# Altium schematic symbol library maxim.SCHLIB: 502 symbols (part 1 of 4)
Pins are listed as number, name and electrical type; pins without a type are passive.

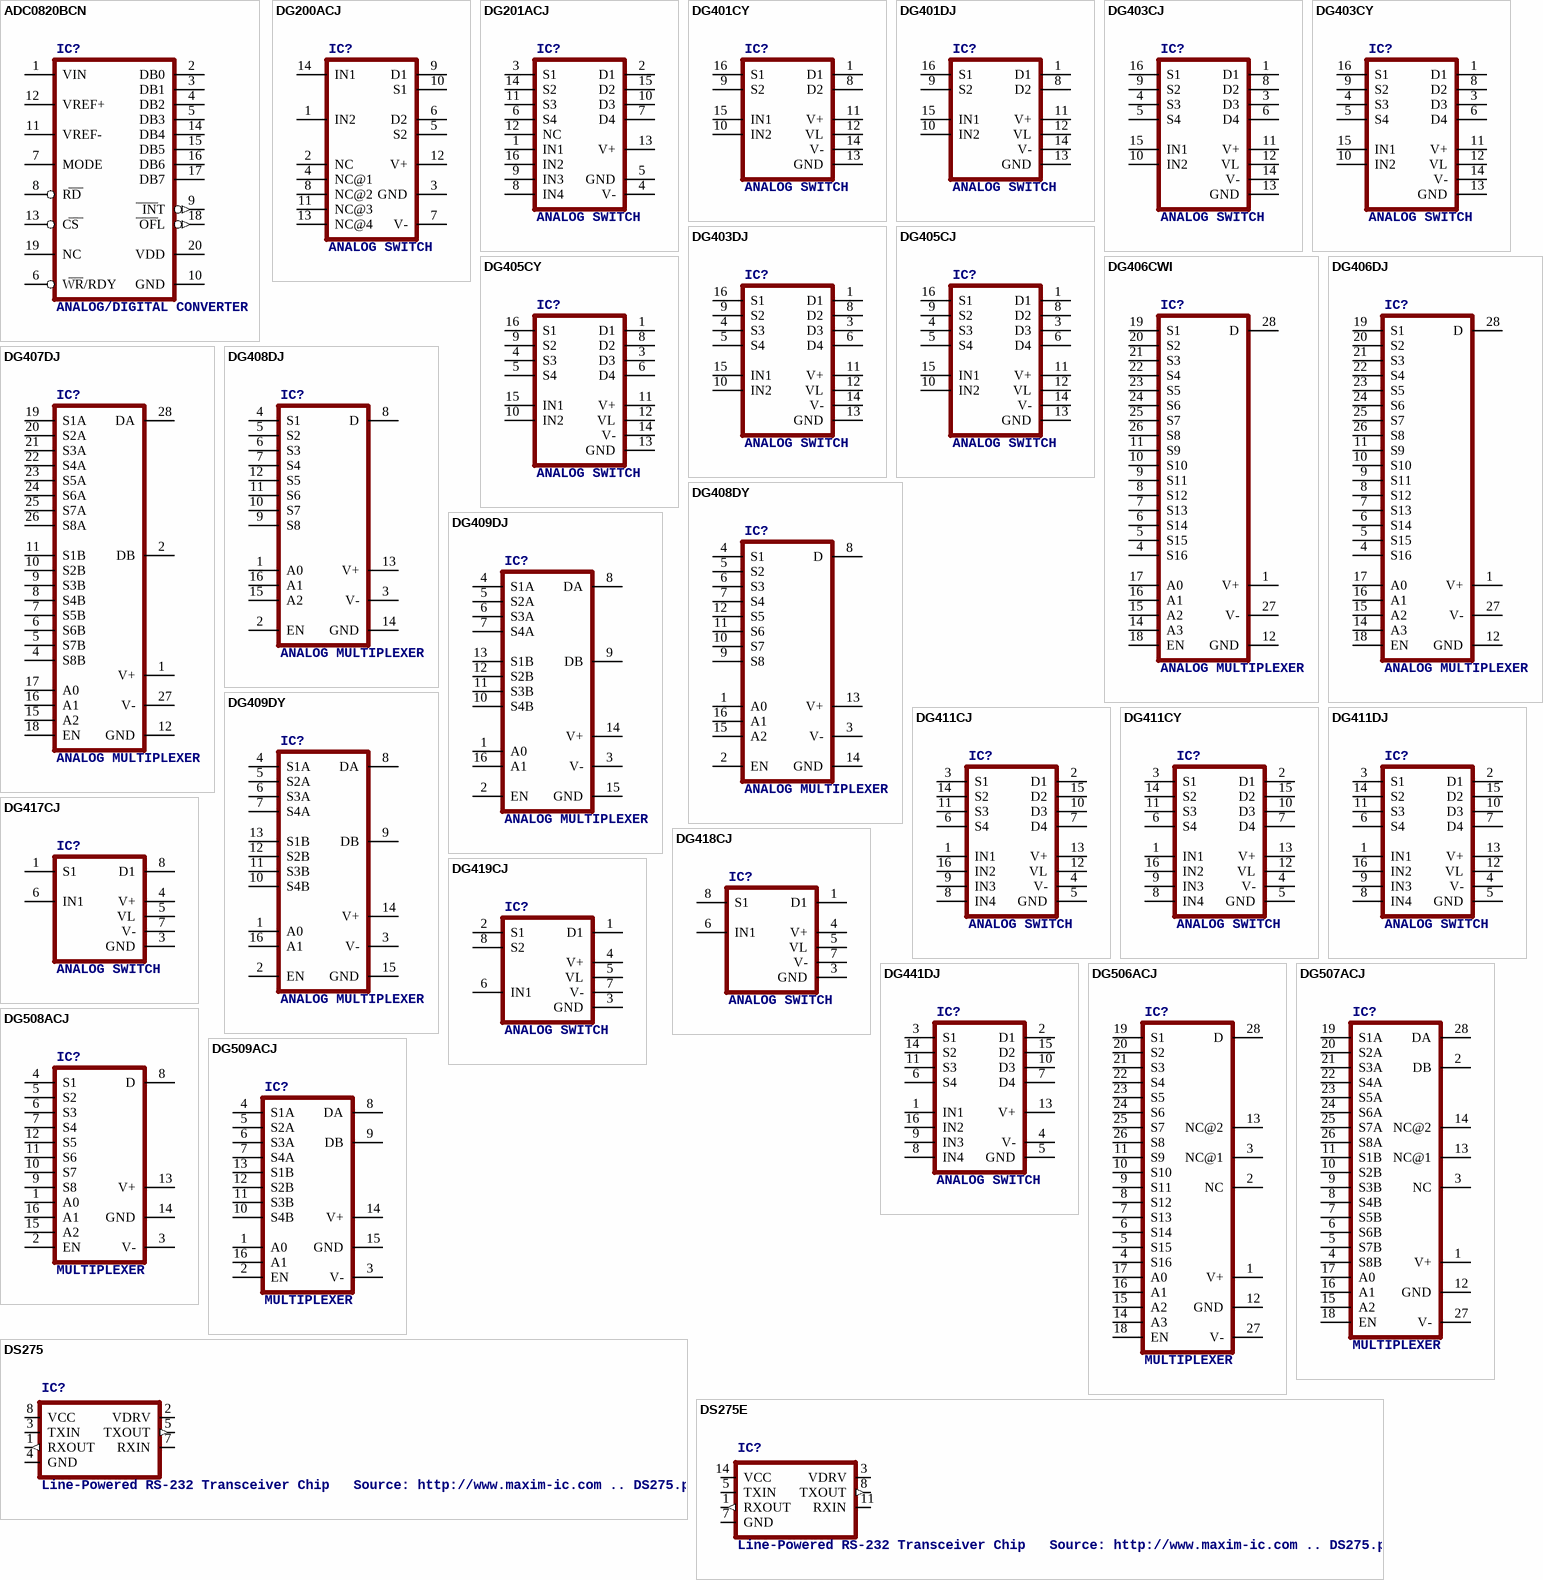
[diagram p0: symbols ADC0820BCN to DS275E]

## ADC0820BCN
designator IC?, comment ANALOG/DIGITAL CONVERTER
MPN: ADC0820CCN/NOPB.; MF: NATIONAL SEMICONDUCTOR; OC_FARNELL: 1189415; OC_NEWARK: unknown
footprint DIL20
pins: 1 VIN, 2 DB0 (hiz), 3 DB1 (hiz), 4 DB2 (hiz), 5 DB3 (hiz), 6 WR/RDY, 7 MODE, 8 RD, 9 INT (out), 10 GND (power), 11 VREF-, 12 VREF+, 13 CS, 14 DB4 (hiz), 15 DB5 (hiz), 16 DB6 (hiz), 17 DB7 (hiz), 18 OFL (out), 19 NC, 20 VDD (power)

## DG200ACJ
designator IC?, comment ANALOG SWITCH
OC_FARNELL: unknown; OC_NEWARK: 77C6395
footprint DIL14
pins: 1 IN2, 2 NC, 3 GND (power), 4 NC@1, 5 S2, 6 D2, 7 V- (power), 8 NC@2, 9 D1, 10 S1, 11 NC@3, 12 V+ (power), 13 NC@4, 14 IN1

## DG201ACJ
designator IC?, comment ANALOG SWITCH
MPN: DG201ACJ; OC_FARNELL: unknown; OC_NEWARK: 06F3941
footprint DIL16
pins: 1 IN1, 2 D1, 3 S1, 4 V- (power), 5 GND (power), 6 S4, 7 D4, 8 IN4, 9 IN3, 10 D3, 11 S3, 12 NC, 13 V+ (power), 14 S2, 15 D2, 16 IN2

## DG401CY
designator IC?, comment ANALOG SWITCH
OC_FARNELL: unknown; OC_NEWARK: unknown
footprint SO16
pins: 1 D1, 8 D2, 9 S2, 10 IN2, 11 V+ (power), 12 VL (power), 13 GND (power), 14 V- (power), 15 IN1, 16 S1

## DG401DJ
designator IC?, comment ANALOG SWITCH
MPN: DG401DJ; OC_FARNELL: 1421843; OC_NEWARK: 06F3955
footprint DIL16
pins: 1 D1, 8 D2, 9 S2, 10 IN2, 11 V+ (power), 12 VL (power), 13 GND (power), 14 V- (power), 15 IN1, 16 S1

## DG403CJ
designator IC?, comment ANALOG SWITCH
MPN: DG403CJ+; OC_FARNELL: unknown; OC_NEWARK: 89K2353
footprint DIL16
pins: 1 D1, 3 D3, 4 S3, 5 S4, 6 D4, 8 D2, 9 S2, 10 IN2, 11 V+ (power), 12 VL (power), 13 GND (power), 14 V- (power), 15 IN1, 16 S1

## DG403CY
designator IC?, comment ANALOG SWITCH
MPN: DG403CY; MF: MAXIM; OC_FARNELL: 1379790; OC_NEWARK: 77C6446
footprint SO16
pins: 1 D1, 3 D3, 4 S3, 5 S4, 6 D4, 8 D2, 9 S2, 10 IN2, 11 V+ (power), 12 VL (power), 13 GND (power), 14 V- (power), 15 IN1, 16 S1

## DG403DJ
designator IC?, comment ANALOG SWITCH
MPN: DG403DJ; OC_FARNELL: 1077116; OC_NEWARK: 06F3957
footprint DIL16
pins: 1 D1, 3 D3, 4 S3, 5 S4, 6 D4, 8 D2, 9 S2, 10 IN2, 11 V+ (power), 12 VL (power), 13 GND (power), 14 V- (power), 15 IN1, 16 S1

## DG405CJ
designator IC?, comment ANALOG SWITCH
MPN: DG405CJ+; OC_FARNELL: unknown; OC_NEWARK: 50M0853
footprint DIL16
pins: 1 D1, 3 D3, 4 S3, 5 S4, 6 D4, 8 D2, 9 S2, 10 IN2, 11 V+ (power), 12 VL (power), 13 GND (power), 14 V- (power), 15 IN1, 16 S1

## DG405CY
designator IC?, comment ANALOG SWITCH
MPN: DG405CY+; OC_FARNELL: unknown; OC_NEWARK: 18M7221
footprint SO16
pins: 1 D1, 3 D3, 4 S3, 5 S4, 6 D4, 8 D2, 9 S2, 10 IN2, 11 V+ (power), 12 VL (power), 13 GND (power), 14 V- (power), 15 IN1, 16 S1

## DG406CWI
designator IC?, comment ANALOG MULTIPLEXER
MPN: DG406CWI; MF: MAXIM; OC_FARNELL: unknown; OC_NEWARK: 77C6458
footprint SO28L
pins: 1 V+ (power), 4 S16, 5 S15, 6 S14, 7 S13, 8 S12, 9 S11, 10 S10, 11 S9, 12 GND (power), 14 A3, 15 A2, 16 A1, 17 A0, 18 EN, 19 S1, 20 S2, 21 S3, 22 S4, 23 S5, 24 S6, 25 S7, 26 S8, 27 V- (power), 28 D

## DG406DJ
designator IC?, comment ANALOG MULTIPLEXER
MPN: DG406DJ; MF: VISHAY/SILICONIX; OC_FARNELL: 1077078; OC_NEWARK: 13C1162
footprint DIL28-6
pins: 1 V+ (power), 4 S16, 5 S15, 6 S14, 7 S13, 8 S12, 9 S11, 10 S10, 11 S9, 12 GND (power), 14 A3, 15 A2, 16 A1, 17 A0, 18 EN, 19 S1, 20 S2, 21 S3, 22 S4, 23 S5, 24 S6, 25 S7, 26 S8, 27 V- (power), 28 D

## DG407DJ
designator IC?, comment ANALOG MULTIPLEXER
MPN: DG407DJ; MF: VISHAY/SILICONIX; OC_FARNELL: 1077079; OC_NEWARK: 13C1165
footprint DIL28-6
pins: 1 V+ (power), 2 DB, 4 S8B, 5 S7B, 6 S6B, 7 S5B, 8 S4B, 9 S3B, 10 S2B, 11 S1B, 12 GND (power), 15 A2, 16 A1, 17 A0, 18 EN, 19 S1A, 20 S2A, 21 S3A, 22 S4A, 23 S5A, 24 S6A, 25 S7A, 26 S8A, 27 V- (power), 28 DA

## DG408DJ
designator IC?, comment ANALOG MULTIPLEXER
MPN: DG408DJ; OC_FARNELL: 1077111; OC_NEWARK: 77C6478
footprint DIL16
pins: 1 A0, 2 EN, 3 V- (power), 4 S1, 5 S2, 6 S3, 7 S4, 8 D, 9 S8, 10 S7, 11 S6, 12 S5, 13 V+ (power), 14 GND (power), 15 A2, 16 A1

## DG408DY
designator IC?, comment ANALOG MULTIPLEXER
MPN: DG408DY+T; OC_FARNELL: 1077070; OC_NEWARK: 67K3719
footprint SO16
pins: 1 A0, 2 EN, 3 V- (power), 4 S1, 5 S2, 6 S3, 7 S4, 8 D, 9 S8, 10 S7, 11 S6, 12 S5, 13 V+ (power), 14 GND (power), 15 A2, 16 A1

## DG409DJ
designator IC?, comment ANALOG MULTIPLEXER
MPN: DG409DJ; MF: INTERSIL; OC_FARNELL: 9664084; OC_NEWARK: 06F3963
footprint DIL16
pins: 1 A0, 2 EN, 3 V- (power), 4 S1A, 5 S2A, 6 S3A, 7 S4A, 8 DA, 9 DB, 10 S4B, 11 S3B, 12 S2B, 13 S1B, 14 V+ (power), 15 GND (power), 16 A1

## DG409DY
designator IC?, comment ANALOG MULTIPLEXER
MPN: DG409DY; MF: MAXIM; OC_FARNELL: 9663835; OC_NEWARK: 90C1278
footprint SO16
pins: 1 A0, 2 EN, 3 V- (power), 4 S1A, 5 S2A, 6 S3A, 7 S4A, 8 DA, 9 DB, 10 S4B, 11 S3B, 12 S2B, 13 S1B, 14 V+ (power), 15 GND (power), 16 A1

## DG411CJ
designator IC?, comment ANALOG SWITCH
OC_FARNELL: unknown; OC_NEWARK: unknown
footprint DIL16
pins: 1 IN1, 2 D1, 3 S1, 4 V- (power), 5 GND (power), 6 S4, 7 D4, 8 IN4, 9 IN3, 10 D3, 11 S3, 12 VL (power), 13 V+ (power), 14 S2, 15 D2, 16 IN2

## DG411CY
designator IC?, comment ANALOG SWITCH
MPN: DG411CY; MF: MAXIM; OC_FARNELL: unknown; OC_NEWARK: 90C1285
footprint SO16
pins: 1 IN1, 2 D1, 3 S1, 4 V- (power), 5 GND (power), 6 S4, 7 D4, 8 IN4, 9 IN3, 10 D3, 11 S3, 12 VL (power), 13 V+ (power), 14 S2, 15 D2, 16 IN2

## DG411DJ
designator IC?, comment ANALOG SWITCH
MPN: DG411DJ; MF: INTERSIL; OC_FARNELL: 2264651; OC_NEWARK: 06F3965
footprint DIL16
pins: 1 IN1, 2 D1, 3 S1, 4 V- (power), 5 GND (power), 6 S4, 7 D4, 8 IN4, 9 IN3, 10 D3, 11 S3, 12 VL (power), 13 V+ (power), 14 S2, 15 D2, 16 IN2

## DG417CJ
designator IC?, comment ANALOG SWITCH
OC_FARNELL: unknown; OC_NEWARK: unknown
footprint DIL08
pins: 1 S1, 3 GND (power), 4 V+ (power), 5 VL (power), 6 IN1, 7 V- (power), 8 D1

## DG418CJ
designator IC?, comment ANALOG SWITCH
MPN: DG418CJ+; OC_FARNELL: unknown; OC_NEWARK: 42M5262
footprint DIL08
pins: 1 D1, 3 GND (power), 4 V+ (power), 5 VL (power), 6 IN1, 7 V- (power), 8 S1

## DG419CJ
designator IC?, comment ANALOG SWITCH
MPN: DG419CJ; MF: MAXIM; OC_FARNELL: unknown; OC_NEWARK: 77C6520
footprint DIL08
pins: 1 D1, 2 S1, 3 GND (power), 4 V+ (power), 5 VL (power), 6 IN1, 7 V- (power), 8 S2

## DG441DJ
designator IC?, comment ANALOG SWITCH
MPN: DG441DJZ; MF: INTERSIL; OC_FARNELL: 1561941; OC_NEWARK: 61J5532
footprint DIL16
pins: 1 IN1, 2 D1, 3 S1, 4 V- (power), 5 GND (power), 6 S4, 7 D4, 8 IN4, 9 IN3, 10 D3, 11 S3, 13 V+ (power), 14 S2, 15 D2, 16 IN2

## DG506ACJ
designator IC?, comment MULTIPLEXER
MPN: DG506ACJ; MF: MAXIM; OC_FARNELL: unknown; OC_NEWARK: 90C1316
footprint DIL28-6
pins: 1 V+ (power), 2 NC, 3 NC@1, 4 S16, 5 S15, 6 S14, 7 S13, 8 S12, 9 S11, 10 S10, 11 S9, 12 GND (power), 13 NC@2, 14 A3, 15 A2, 16 A1, 17 A0, 18 EN, 19 S1, 20 S2, 21 S3, 22 S4, 23 S5, 24 S6, 25 S7, 26 S8, 27 V- (power), 28 D

## DG507ACJ
designator IC?, comment MULTIPLEXER
MPN: DG507ACJ+; OC_FARNELL: 1077079; OC_NEWARK: 18M9071
footprint DIL28-6
pins: 1 V+ (power), 2 DB, 3 NC, 4 S8B, 5 S7B, 6 S6B, 7 S5B, 8 S4B, 9 S3B, 10 S2B, 11 S1B, 12 GND (power), 13 NC@1, 14 NC@2, 15 A2, 16 A1, 17 A0, 18 EN, 19 S1A, 20 S2A, 21 S3A, 22 S4A, 23 S5A, 24 S6A, 25 S7A, 26 S8A, 27 V- (power), 28 DA

## DG508ACJ
designator IC?, comment MULTIPLEXER
MPN: DG508ACJ; MF: MAXIM; OC_FARNELL: 9663673; OC_NEWARK: 90C1325
footprint DIL16
pins: 1 A0, 2 EN, 3 V- (power), 4 S1, 5 S2, 6 S3, 7 S4, 8 D, 9 S8, 10 S7, 11 S6, 12 S5, 13 V+ (power), 14 GND (power), 15 A2, 16 A1

## DG509ACJ
designator IC?, comment MULTIPLEXER
MPN: DG509ACJ; MF: MAXIM; OC_FARNELL: 9664084; OC_NEWARK: 90C1331
footprint DIL16
pins: 1 A0, 2 EN, 3 V- (power), 4 S1A, 5 S2A, 6 S3A, 7 S4A, 8 DA, 9 DB, 10 S4B, 11 S3B, 12 S2B, 13 S1B, 14 V+ (power), 15 GND (power), 16 A1

## DS275
designator IC?, comment Line-Powered RS-232 Transceiver Chip   Source: http://www.maxim-ic.com .. DS275.pdf
MPN: DS275+; OC_FARNELL: unknown; OC_NEWARK: 88K4212
footprint DIL08
pins: 1 RXOUT (out), 2 VDRV, 3 TXIN, 4 GND (power), 5 TXOUT (out), 7 RXIN, 8 VCC (power)

## DS275E
designator IC?, comment Line-Powered RS-232 Transceiver Chip   Source: http://www.maxim-ic.com .. DS275.pdf
OC_FARNELL: unknown; OC_NEWARK: unknown
footprint TSSOP14
pins: 1 RXOUT (out), 3 VDRV, 5 TXIN, 7 GND (power), 8 TXOUT (out), 11 RXIN, 14 VCC (power)

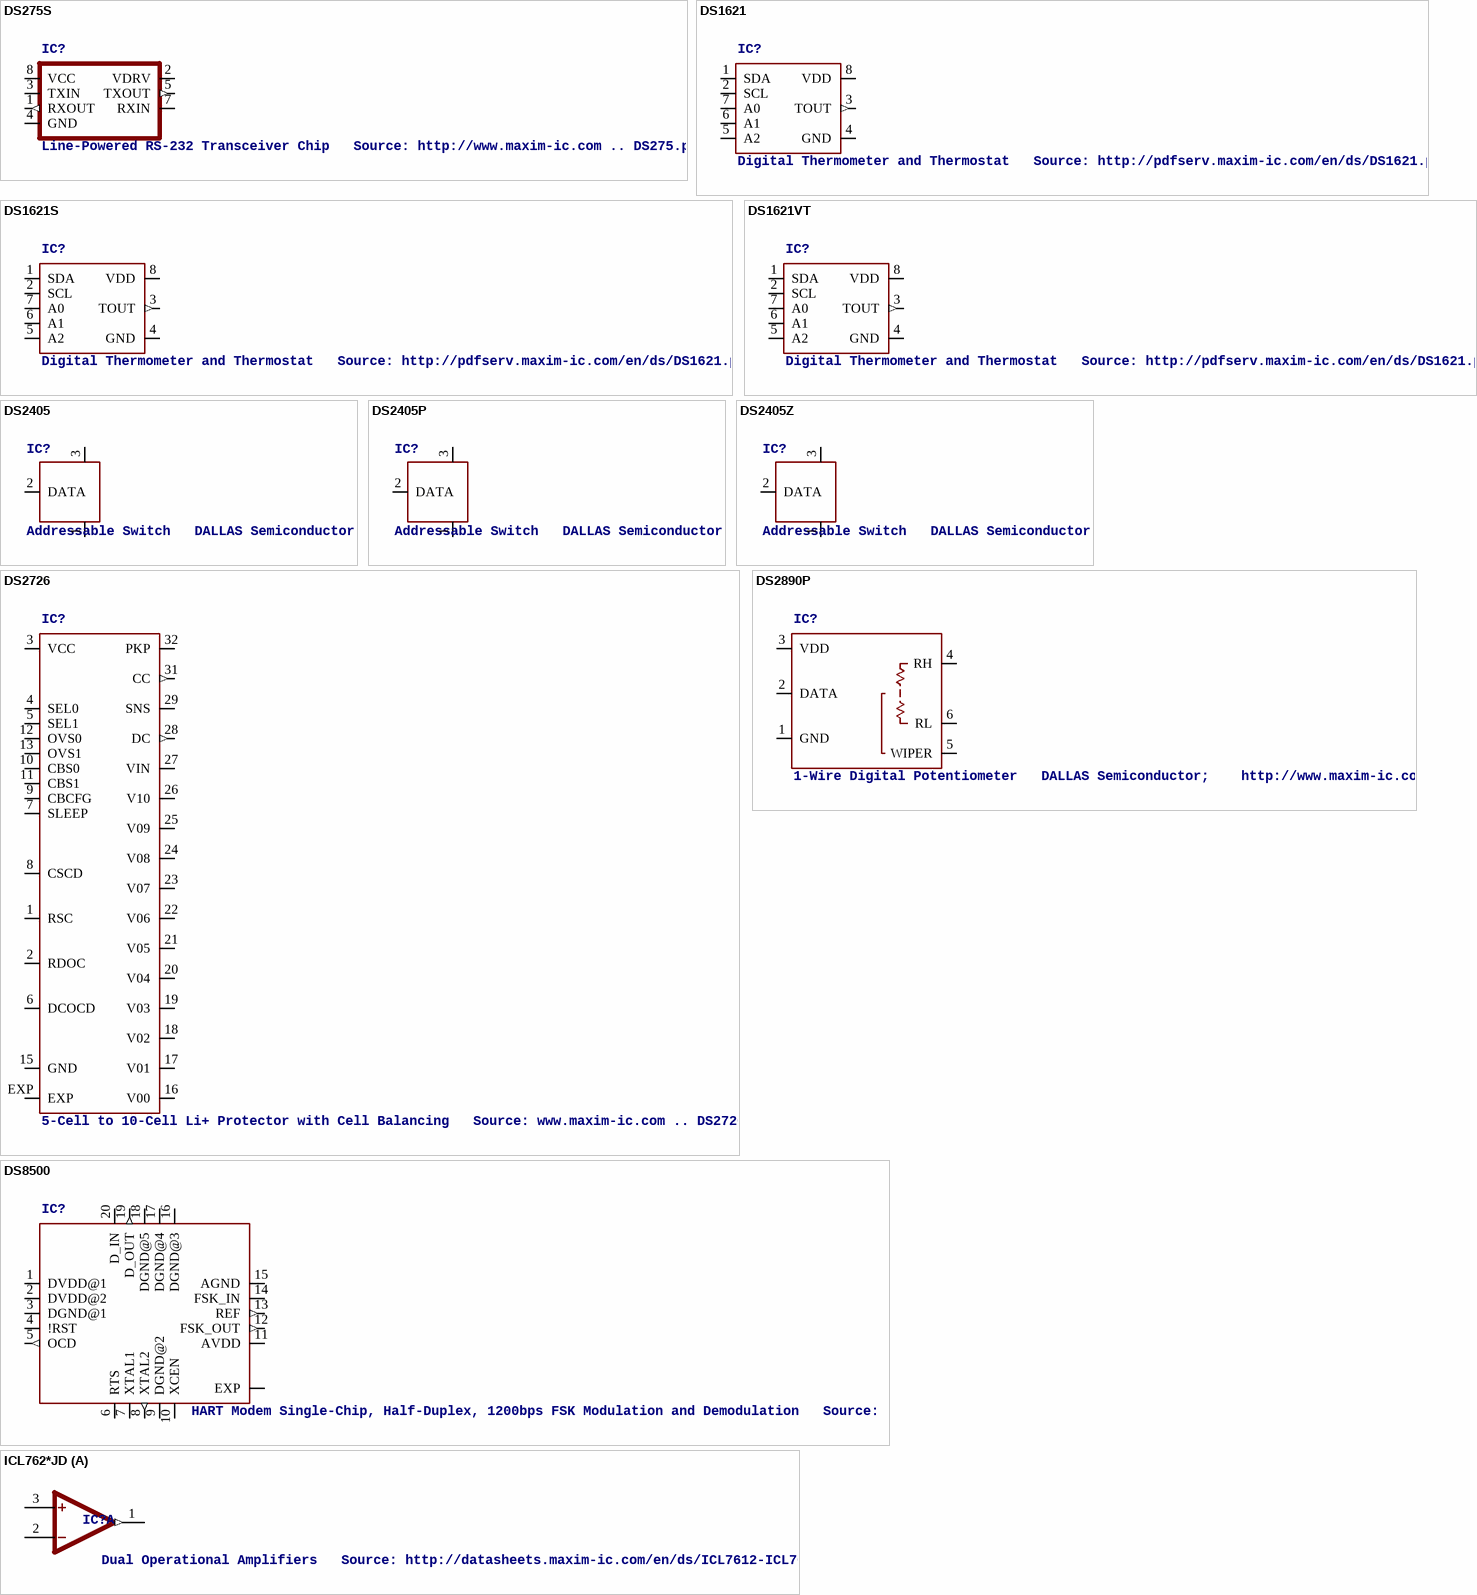
[diagram p1: symbols DS275S to ICL762*JD]

## DS275S
designator IC?, comment Line-Powered RS-232 Transceiver Chip   Source: http://www.maxim-ic.com .. DS275.pdf
MPN: DS275S+; MF: DALLAS SEMICONDUCTOR; OC_FARNELL: unknown; OC_NEWARK: 60K9389
footprint SO08
pins: 1 RXOUT (out), 2 VDRV, 3 TXIN, 4 GND (power), 5 TXOUT (out), 7 RXIN, 8 VCC (power)

## DS1621
designator IC?, comment Digital Thermometer and Thermostat   Source: http://pdfserv.maxim-ic.com/en/ds/DS1621.pdf
MPN: DS1621; OC_FARNELL: 1188024; OC_NEWARK: 66F3769
footprint DIL08
pins: 1 SDA, 2 SCL, 3 TOUT (out), 4 GND (power), 5 A2, 6 A1, 7 A0, 8 VDD (power)

## DS1621S
designator IC?, comment Digital Thermometer and Thermostat   Source: http://pdfserv.maxim-ic.com/en/ds/DS1621.pdf
MPN: DS1621S+; MF: DALLAS SEMICONDUCTOR; OC_FARNELL: 9725261; OC_NEWARK: 23K3501
footprint SO08
pins: 1 SDA, 2 SCL, 3 TOUT (out), 4 GND (power), 5 A2, 6 A1, 7 A0, 8 VDD (power)

## DS1621VT
designator IC?, comment Digital Thermometer and Thermostat   Source: http://pdfserv.maxim-ic.com/en/ds/DS1621.pdf
MPN: DS1621V+T&R; OC_FARNELL: unknown; OC_NEWARK: 65K5328
footprint SO08-208
pins: 1 SDA, 2 SCL, 3 TOUT (out), 4 GND (power), 5 A2, 6 A1, 7 A0, 8 VDD (power)

## DS2405
designator IC?, comment Addressable Switch   DALLAS Semiconductor
MPN: DS2405; MF: DALLAS SEMICONDUCTOR; OC_FARNELL: 1188025; OC_NEWARK: 06F4645
footprint TO92-
pins: 1 GND, 2 DATA, 3 PIO

## DS2405P
designator IC?, comment Addressable Switch   DALLAS Semiconductor
OC_FARNELL: unknown; OC_NEWARK: unknown
footprint TSOC6
pins: 1 GND, 2 DATA, 3 PIO

## DS2405Z
designator IC?, comment Addressable Switch   DALLAS Semiconductor
OC_FARNELL: 1290862; OC_NEWARK: unknown
footprint SOT223
pins: 1 GND, 2 DATA, 3 PIO

## DS2726
designator IC?, comment 5-Cell to 10-Cell Li+ Protector with Cell Balancing   Source: www.maxim-ic.com .. DS2726.pdf
MPN: DS2726G+; OC_FARNELL: unknown; OC_NEWARK: 01N5678
footprint TQFN32
pins: 1 RSC, 2 RDOC, 3 VCC (power), 4 SEL0, 5 SEL1, 6 DCOCD, 7 SLEEP, 8 CSCD, 9 CBCFG, 10 CBS0, 11 CBS1, 12 OVS0, 13 OVS1, 15 GND (power), 16 V00, 17 V01, 18 V02, 19 V03, 20 V04, 21 V05, 22 V06, 23 V07, 24 V08, 25 V09, 26 V10, 27 VIN, 28 DC (out), 29 SNS, 31 CC (out), 32 PKP, EXP

## DS2890P
designator IC?, comment 1-Wire Digital Potentiometer   DALLAS Semiconductor;    http://www.maxim-ic.com/
OC_FARNELL: unknown; OC_NEWARK: unknown
footprint TSOC6
pins: 1 GND (power), 2 DATA, 3 VDD (power), 4 RH, 5 WIPER, 6 RL

## DS8500
designator IC?, comment HART Modem Single-Chip, Half-Duplex, 1200bps FSK Modulation and Demodulation   Source: http://datasheets.maxim-ic.com/en/ds/DS8500.pdf
MPN: DS8500-JND+; OC_FARNELL: unknown; OC_NEWARK: 19P9102
footprint TQFN20-5X5
pins: 1 DVDD@1 (power), 2 DVDD@2 (power), 3 DGND@1 (power), 4 !RST, 5 OCD (out), 6 RTS, 7 XTAL1, 8 XTAL2 (out), 9 DGND@2 (power), 10 XCEN, 11 AVDD, 12 FSK_OUT (out), 13 REF (out), 14 FSK_IN, 15 AGND, 16 DGND@3 (power), 17 DGND@4 (power), 18 DGND@5 (power), 19 D_OUT (out), 20 D_IN, EXP

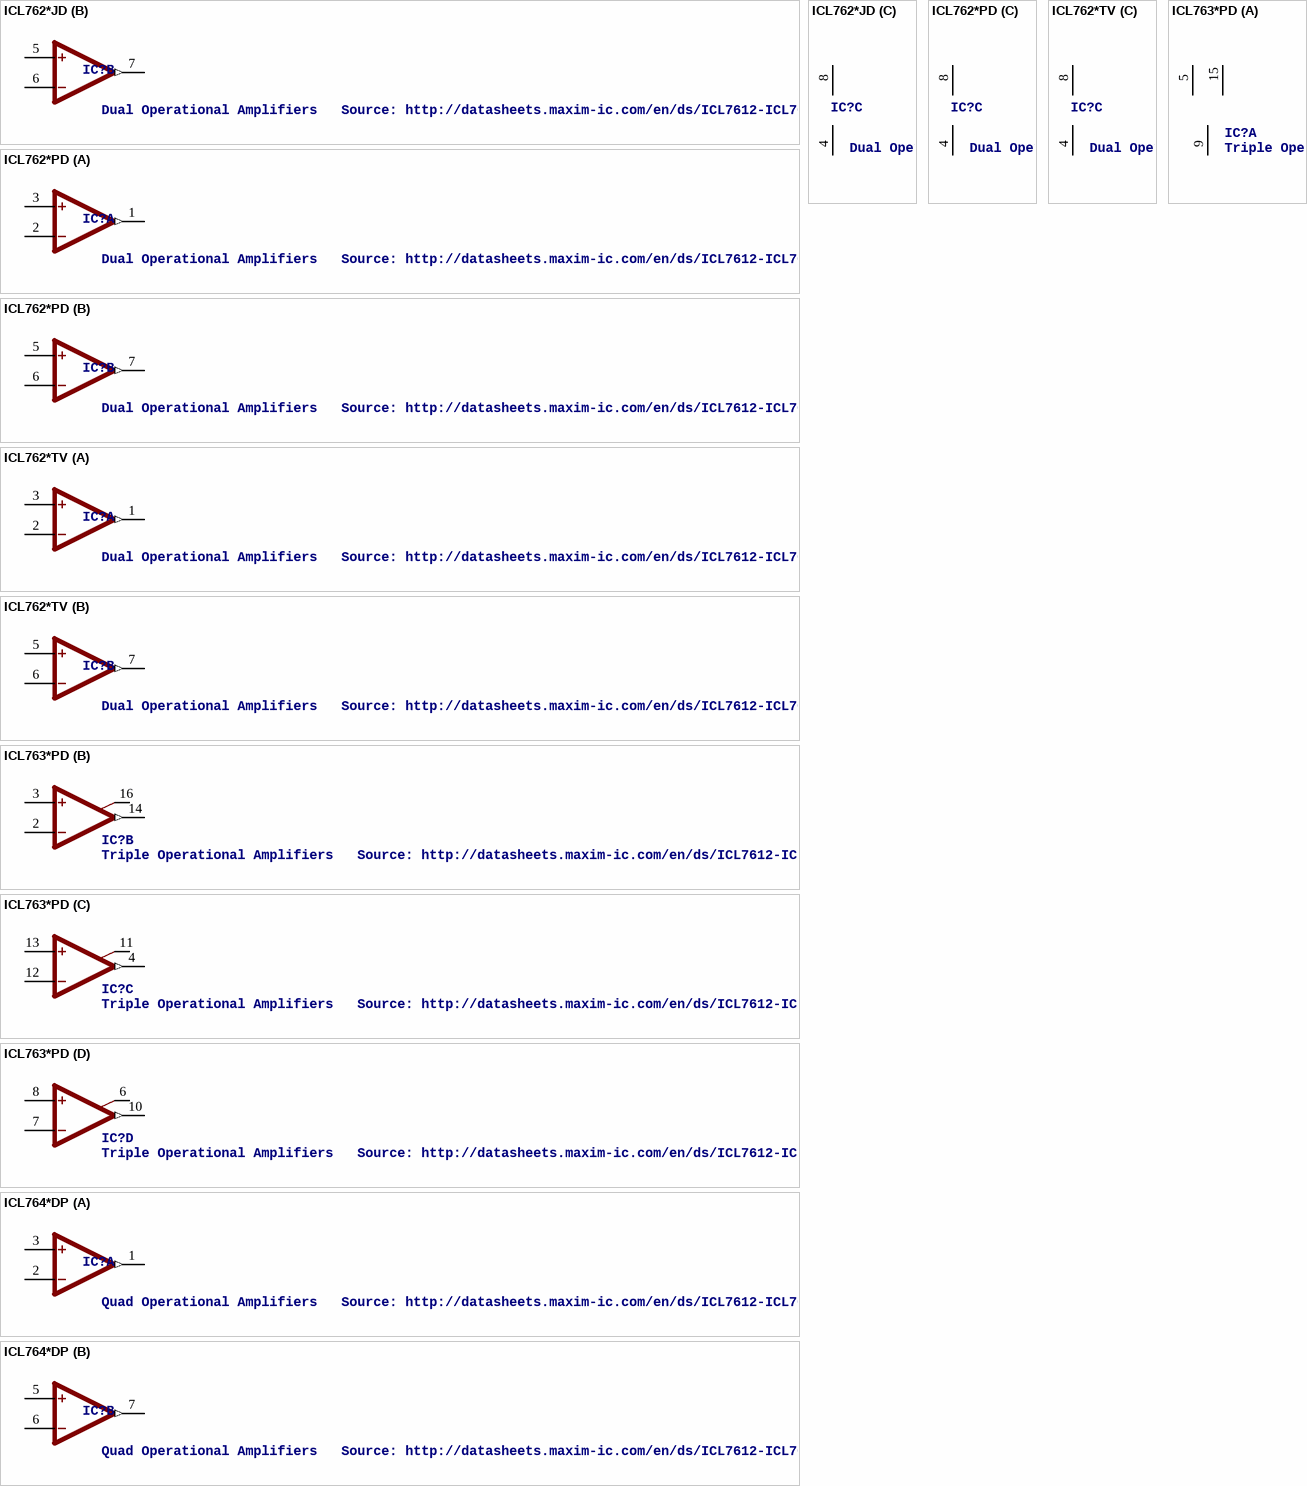
[diagram p2: symbols ICL762*JD to ICL764*DP]

## ICL762*JD
designator IC?, comment Dual Operational Amplifiers   Source: http://datasheets.maxim-ic.com/en/ds/ICL7612-ICL764X.pdf
OC_FARNELL: unknown; OC_NEWARK: unknown
footprint DIL08
part A pins: 1 OUT (out), 2 -IN, 3 +IN
part B pins: 5 +IN, 6 -IN, 7 OUT (out)
part C pins: 4 V- (power), 8 V+ (power)

## ICL762*PD
designator IC?, comment Dual Operational Amplifiers   Source: http://datasheets.maxim-ic.com/en/ds/ICL7612-ICL764X.pdf
OC_FARNELL: unknown; OC_NEWARK: unknown
footprint DIL08
part A pins: 1 OUT (out), 2 -IN, 3 +IN
part B pins: 5 +IN, 6 -IN, 7 OUT (out)
part C pins: 4 V- (power), 8 V+ (power)

## ICL762*TV
designator IC?, comment Dual Operational Amplifiers   Source: http://datasheets.maxim-ic.com/en/ds/ICL7612-ICL764X.pdf
OC_FARNELL: unknown; OC_NEWARK: unknown
footprint TO99
part A pins: 1 OUT (out), 2 -IN, 3 +IN
part B pins: 5 +IN, 6 -IN, 7 OUT (out)
part C pins: 4 V- (power), 8 V+ (power)

## ICL763*PD
designator IC?, comment Triple Operational Amplifiers   Source: http://datasheets.maxim-ic.com/en/ds/ICL7612-ICL764X.pdf
OC_FARNELL: unknown; OC_NEWARK: unknown
footprint DIL16
part A pins: 5 V+@1 (power), 9 V- (power), 15 V+@2 (power)
part B pins: 2 -IN, 3 +IN, 14 OUT (out), 16 IOSET
part C pins: 4 OUT (out), 11 IOSET, 12 -IN, 13 +IN
part D pins: 6 IOSET, 7 -IN, 8 +IN, 10 OUT (out)

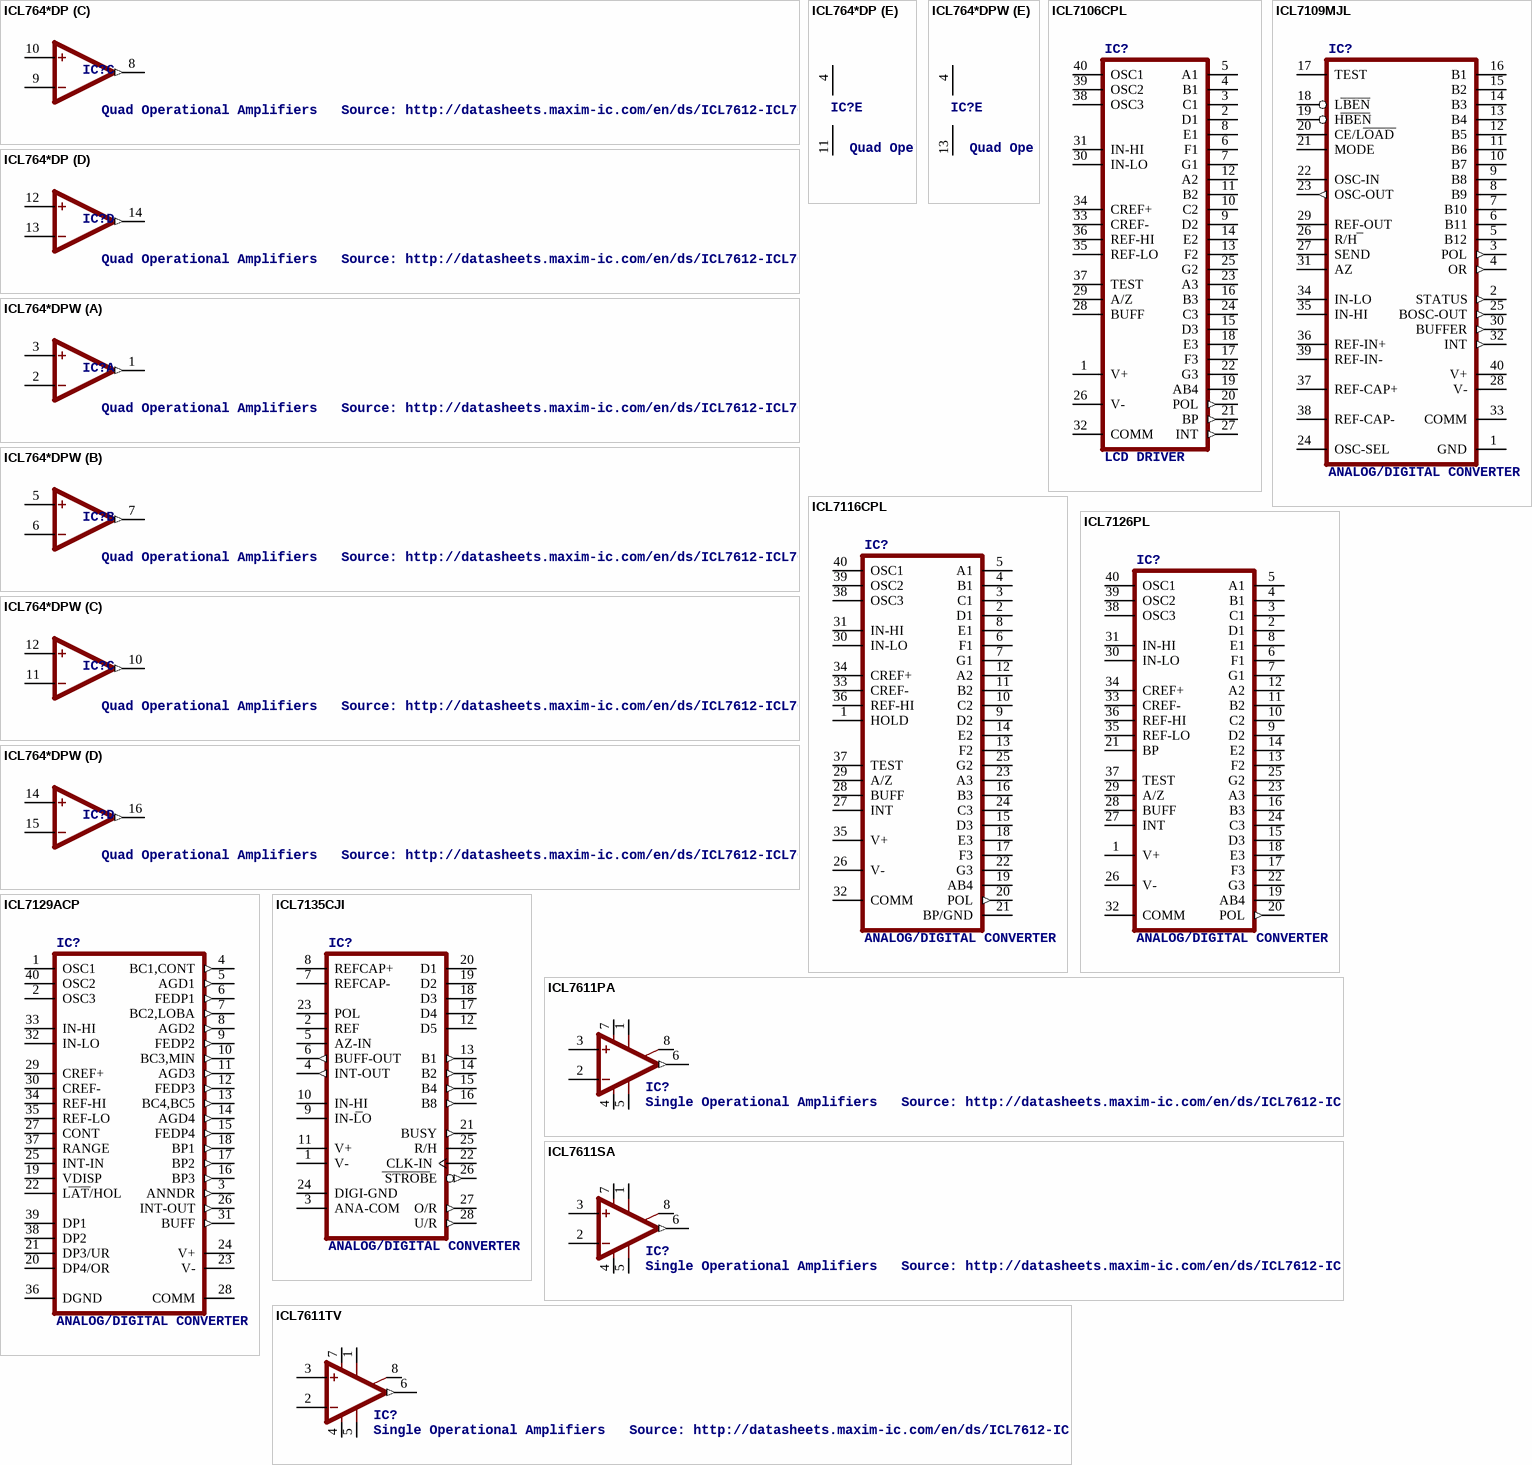
[diagram p3: symbols ICL764*DP to ICL7611TV]

## ICL764*DP
designator IC?, comment Quad Operational Amplifiers   Source: http://datasheets.maxim-ic.com/en/ds/ICL7612-ICL764X.pdf
OC_FARNELL: unknown; OC_NEWARK: unknown
footprint DIL14
part A pins: 1 OUT (out), 2 -IN, 3 +IN
part B pins: 5 +IN, 6 -IN, 7 OUT (out)
part C pins: 8 OUT (out), 9 -IN, 10 +IN
part D pins: 12 +IN, 13 -IN, 14 OUT (out)
part E pins: 4 V+ (power), 11 V- (power)

## ICL764*DPW
designator IC?, comment Quad Operational Amplifiers   Source: http://datasheets.maxim-ic.com/en/ds/ICL7612-ICL764X.pdf
OC_FARNELL: unknown; OC_NEWARK: unknown
footprint DIL16
part A pins: 1 OUT (out), 2 -IN, 3 +IN
part B pins: 5 +IN, 6 -IN, 7 OUT (out)
part C pins: 10 OUT (out), 11 -IN, 12 +IN
part D pins: 14 +IN, 15 -IN, 16 OUT (out)
part E pins: 4 V+ (power), 13 V- (power)

## ICL7106CPL
designator IC?, comment LCD DRIVER
MPN: ICL7106CPL; MF: INTERSIL; OC_FARNELL: 9663550; OC_NEWARK: 06F7355
footprint DIL40
pins: 1 V+ (power), 2 D1 (hiz), 3 C1 (hiz), 4 B1 (hiz), 5 A1 (hiz), 6 F1 (hiz), 7 G1 (hiz), 8 E1 (hiz), 9 D2 (hiz), 10 C2 (hiz), 11 B2 (hiz), 12 A2 (hiz), 13 F2 (hiz), 14 E2 (hiz), 15 D3 (hiz), 16 B3 (hiz), 17 F3 (hiz), 18 E3 (hiz), 19 AB4 (hiz), 20 POL (out), 21 BP (out), 22 G3 (hiz), 23 A3 (hiz), 24 C3 (hiz), 25 G2 (hiz), 26 V- (power), 27 INT (out), 28 BUFF, 29 A/Z, 30 IN-LO, 31 IN-HI, 32 COMM (power), 33 CREF-, 34 CREF+, 35 REF-LO, 36 REF-HI, 37 TEST, 38 OSC3, 39 OSC2, 40 OSC1

## ICL7109MJL
designator IC?, comment ANALOG/DIGITAL CONVERTER
OC_FARNELL: unknown; OC_NEWARK: unknown
footprint DIL40
pins: 1 GND (power), 2 STATUS (out), 3 POL (out), 4 OR (out), 5 B12 (hiz), 6 B11 (hiz), 7 B10 (hiz), 8 B9 (hiz), 9 B8 (hiz), 10 B7 (hiz), 11 B6 (hiz), 12 B5 (hiz), 13 B4 (hiz), 14 B3 (hiz), 15 B2 (hiz), 16 B1 (hiz), 17 TEST, 18 LBEN, 19 HBEN, 20 CE/LOAD, 21 MODE, 22 OSC-IN, 23 OSC-OUT (out), 24 OSC-SEL, 25 BOSC-OUT (out), 26 R/H, 27 SEND, 28 V- (power), 29 REF-OUT, 30 BUFFER (out), 31 AZ, 32 INT (out), 33 COMM (power), 34 IN-LO, 35 IN-HI, 36 REF-IN+, 37 REF-CAP+, 38 REF-CAP-, 39 REF-IN-, 40 V+ (power)

## ICL7116CPL
designator IC?, comment ANALOG/DIGITAL CONVERTER
MPN: ICL7116CPL+; OC_FARNELL: unknown; OC_NEWARK: 89K2368
footprint DIL40
pins: 1 HOLD, 2 D1 (hiz), 3 C1 (hiz), 4 B1 (hiz), 5 A1 (hiz), 6 F1 (hiz), 7 G1 (hiz), 8 E1 (hiz), 9 D2 (hiz), 10 C2 (hiz), 11 B2 (hiz), 12 A2 (hiz), 13 F2 (hiz), 14 E2 (hiz), 15 D3 (hiz), 16 B3 (hiz), 17 F3 (hiz), 18 E3 (hiz), 19 AB4 (hiz), 20 POL (out), 21 BP/GND, 22 G3 (hiz), 23 A3 (hiz), 24 C3 (hiz), 25 G2 (hiz), 26 V- (power), 27 INT, 28 BUFF, 29 A/Z, 30 IN-LO, 31 IN-HI, 32 COMM (power), 33 CREF-, 34 CREF+, 35 V+ (power), 36 REF-HI, 37 TEST, 38 OSC3, 39 OSC2, 40 OSC1

## ICL7126PL
designator IC?, comment ANALOG/DIGITAL CONVERTER
OC_FARNELL: unknown; OC_NEWARK: unknown
footprint DIL40
pins: 1 V+ (power), 2 D1 (hiz), 3 C1 (hiz), 4 B1 (hiz), 5 A1 (hiz), 6 F1 (hiz), 7 G1 (hiz), 8 E1 (hiz), 9 D2 (hiz), 10 C2 (hiz), 11 B2 (hiz), 12 A2 (hiz), 13 F2 (hiz), 14 E2 (hiz), 15 D3 (hiz), 16 B3 (hiz), 17 F3 (hiz), 18 E3 (hiz), 19 AB4 (hiz), 20 POL (out), 21 BP, 22 G3 (hiz), 23 A3 (hiz), 24 C3 (hiz), 25 G2 (hiz), 26 V- (power), 27 INT, 28 BUFF, 29 A/Z, 30 IN-LO, 31 IN-HI, 32 COMM (power), 33 CREF-, 34 CREF+, 35 REF-LO, 36 REF-HI, 37 TEST, 38 OSC3, 39 OSC2, 40 OSC1

## ICL7129ACP
designator IC?, comment ANALOG/DIGITAL CONVERTER
MPN: ICL7129ACPL+; OC_FARNELL: unknown; OC_NEWARK: 89K2377
footprint DIL40
pins: 1 OSC1, 2 OSC3, 3 ANNDR (out), 4 BC1,CONT (out), 5 AGD1 (out), 6 FEDP1 (out), 7 BC2,LOBA (out), 8 AGD2 (out), 9 FEDP2 (out), 10 BC3,MIN (out), 11 AGD3 (out), 12 FEDP3 (out), 13 BC4,BC5 (out), 14 AGD4 (out), 15 FEDP4 (out), 16 BP3 (out), 17 BP2 (out), 18 BP1 (out), 19 VDISP, 20 DP4/OR, 21 DP3/UR, 22 LAT/HOL, 23 V- (power), 24 V+ (power), 25 INT-IN, 26 INT-OUT (out), 27 CONT, 28 COMM (power), 29 CREF+, 30 CREF-, 31 BUFF (out), 32 IN-LO, 33 IN-HI, 34 REF-HI, 35 REF-LO, 36 DGND (power), 37 RANGE, 38 DP2, 39 DP1, 40 OSC2

## ICL7135CJI
designator IC?, comment ANALOG/DIGITAL CONVERTER
OC_FARNELL: unknown; OC_NEWARK: unknown
footprint DIL28-6
pins: 1 V- (power), 2 REF, 3 ANA-COM (power), 4 INT-OUT (out), 5 AZ-IN, 6 BUFF-OUT (out), 7 REFCAP-, 8 REFCAP+, 9 IN-LO, 10 IN-HI, 11 V+ (power), 12 D5 (hiz), 13 B1 (out), 14 B2 (out), 15 B4 (out), 16 B8 (out), 17 D4 (hiz), 18 D3 (hiz), 19 D2 (hiz), 20 D1 (hiz), 21 BUSY (out), 22 CLK-IN, 23 POL, 24 DIGI-GND (power), 25 R/H, 26 STROBE (out), 27 O/R (out), 28 U/R (out)

## ICL7611PA
designator IC?, comment Single Operational Amplifiers   Source: http://datasheets.maxim-ic.com/en/ds/ICL7612-ICL764X.pdf
MPN: ICL7611ACPA+; MPN: ICL7611BCPA+; MPN: ICL7611DCPA; MF: INTERSIL; OC_FARNELL: unknown; OC_NEWARK: 57K8761; OC_NEWARK: 57K8762; OC_FARNELL: 1018166; OC_NEWARK: 06F7397
footprint DIL08
pins: 1 OFF1, 2 -IN, 3 +IN, 4 V- (power), 5 OFF2, 6 OUT (out), 7 V+ (power), 8 IOSET

## ICL7611SA
designator IC?, comment Single Operational Amplifiers   Source: http://datasheets.maxim-ic.com/en/ds/ICL7612-ICL764X.pdf
MPN: ICL7611BCSA+T; MPN: ICL7611DCSA; MPN: ICL7611DESA+T; MF: MAXIM; OC_FARNELL: unknown; OC_NEWARK: unknown; OC_NEWARK: 53K6532; OC_NEWARK: 77C6629; OC_NEWARK: 53K6536
footprint SO08
pins: 1 OFF1, 2 -IN, 3 +IN, 4 V- (power), 5 OFF2, 6 OUT (out), 7 V+ (power), 8 IOSET

## ICL7611TV
designator IC?, comment Single Operational Amplifiers   Source: http://datasheets.maxim-ic.com/en/ds/ICL7612-ICL764X.pdf
OC_FARNELL: unknown; OC_NEWARK: unknown
footprint TO99
pins: 1 OFF1, 2 -IN, 3 +IN, 4 V- (power), 5 OFF2, 6 OUT (out), 7 V+ (power), 8 IOSET

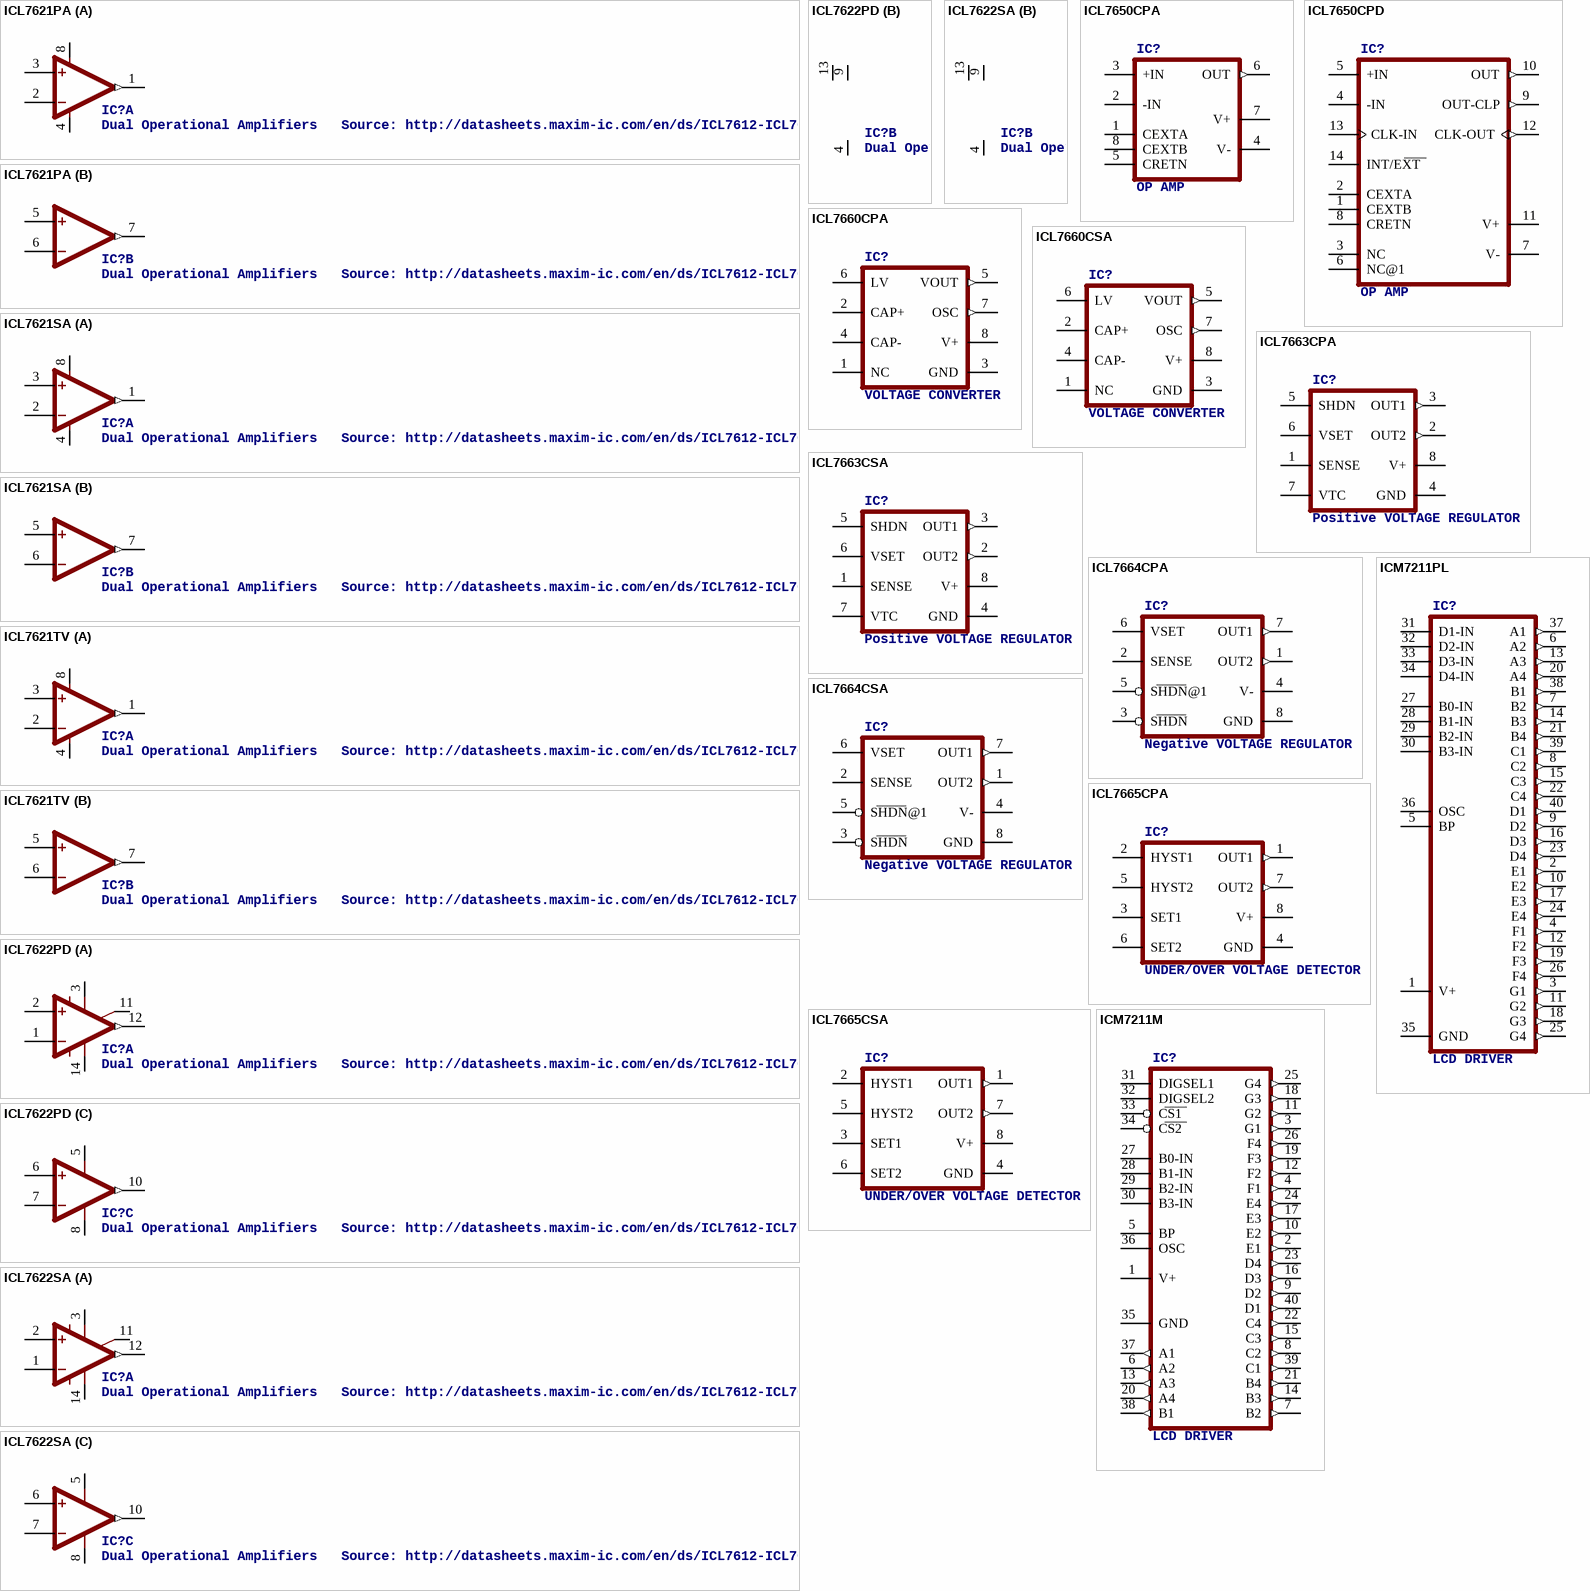
[diagram p4: symbols ICL7621PA to ICM7211PL]

## ICL7621PA
designator IC?, comment Dual Operational Amplifiers   Source: http://datasheets.maxim-ic.com/en/ds/ICL7612-ICL764X.pdf
OC_FARNELL: unknown; OC_NEWARK: unknown
footprint DIL08
part A pins: 1 OUT (out), 2 -IN, 3 +IN, 4 V- (power), 8 V+ (power)
part B pins: 5 +IN, 6 -IN, 7 OUT (out)

## ICL7621SA
designator IC?, comment Dual Operational Amplifiers   Source: http://datasheets.maxim-ic.com/en/ds/ICL7612-ICL764X.pdf
OC_FARNELL: unknown; OC_NEWARK: unknown
footprint SO08
part A pins: 1 OUT (out), 2 -IN, 3 +IN, 4 V- (power), 8 V+ (power)
part B pins: 5 +IN, 6 -IN, 7 OUT (out)

## ICL7621TV
designator IC?, comment Dual Operational Amplifiers   Source: http://datasheets.maxim-ic.com/en/ds/ICL7612-ICL764X.pdf
OC_FARNELL: unknown; OC_NEWARK: unknown
footprint TO99
part A pins: 1 OUT (out), 2 -IN, 3 +IN, 4 V- (power), 8 V+ (power)
part B pins: 5 +IN, 6 -IN, 7 OUT (out)

## ICL7622PD
designator IC?, comment Dual Operational Amplifiers   Source: http://datasheets.maxim-ic.com/en/ds/ICL7612-ICL764X.pdf
OC_FARNELL: unknown; OC_NEWARK: unknown
footprint DIL14
part A pins: 1 -IN, 2 +IN, 3 OFF1, 11 NC, 12 OUT (out), 14 OFF2
part B pins: 4 V- (power), 9 V+ (power), 13 V+@1 (power)
part C pins: 5 OFF1, 6 +IN, 7 -IN, 8 OFF2, 10 OUT (out)

## ICL7622SA
designator IC?, comment Dual Operational Amplifiers   Source: http://datasheets.maxim-ic.com/en/ds/ICL7612-ICL764X.pdf
OC_FARNELL: unknown; OC_NEWARK: unknown
footprint SO14
part A pins: 1 -IN, 2 +IN, 3 OFF1, 11 NC, 12 OUT (out), 14 OFF2
part B pins: 4 V- (power), 9 V+ (power), 13 V+@1 (power)
part C pins: 5 OFF1, 6 +IN, 7 -IN, 8 OFF2, 10 OUT (out)

## ICL7650CPA
designator IC?, comment OP AMP
MPN: ICL7650CPA-1; OC_FARNELL: unknown; OC_NEWARK: 06F7424
footprint DIL08
pins: 1 CEXTA, 2 -IN, 3 +IN, 4 V- (power), 5 CRETN, 6 OUT (out), 7 V+ (power), 8 CEXTB

## ICL7650CPD
designator IC?, comment OP AMP
MPN: ICL7650CPD; OC_FARNELL: unknown; OC_NEWARK: 06F7425
footprint DIL14
pins: 1 CEXTB, 2 CEXTA, 3 NC, 4 -IN, 5 +IN, 6 NC@1, 7 V- (power), 8 CRETN, 9 OUT-CLP (out), 10 OUT (out), 11 V+ (power), 12 CLK-OUT (out), 13 CLK-IN, 14 INT/EXT

## ICL7660CPA
designator IC?, comment VOLTAGE CONVERTER
MPN: ICL7660CPA; MF: INTERSIL; OC_FARNELL: 1018170; OC_NEWARK: 06F7441
footprint DIL08
pins: 1 NC, 2 CAP+, 3 GND (power), 4 CAP-, 5 VOUT (out), 6 LV, 7 OSC (out), 8 V+ (power)

## ICL7660CSA
designator IC?, comment VOLTAGE CONVERTER
MPN: ICL7660CSA; MF: MAXIM; OC_FARNELL: 9724710; OC_NEWARK: 34C3732
footprint SO08
pins: 1 NC, 2 CAP+, 3 GND (power), 4 CAP-, 5 VOUT (out), 6 LV, 7 OSC (out), 8 V+ (power)

## ICL7663CPA
designator IC?, comment Positive VOLTAGE REGULATOR
OC_FARNELL: unknown; OC_NEWARK: unknown
footprint DIL08
pins: 1 SENSE, 2 OUT2 (out), 3 OUT1 (out), 4 GND (power), 5 SHDN, 6 VSET, 7 VTC, 8 V+ (power)

## ICL7663CSA
designator IC?, comment Positive VOLTAGE REGULATOR
OC_FARNELL: unknown; OC_NEWARK: unknown
footprint SO08
pins: 1 SENSE, 2 OUT2 (out), 3 OUT1 (out), 4 GND (power), 5 SHDN, 6 VSET, 7 VTC, 8 V+ (power)

## ICL7664CPA
designator IC?, comment Negative VOLTAGE REGULATOR
OC_FARNELL: unknown; OC_NEWARK: unknown
footprint DIL08
pins: 1 OUT2 (out), 2 SENSE, 3 SHDN, 4 V- (power), 5 SHDN@1, 6 VSET, 7 OUT1 (out), 8 GND (power)

## ICL7664CSA
designator IC?, comment Negative VOLTAGE REGULATOR
OC_FARNELL: unknown; OC_NEWARK: unknown
footprint SO08
pins: 1 OUT2 (out), 2 SENSE, 3 SHDN, 4 V- (power), 5 SHDN@1, 6 VSET, 7 OUT1 (out), 8 GND (power)

## ICL7665CPA
designator IC?, comment UNDER/OVER VOLTAGE DETECTOR
OC_FARNELL: unknown; OC_NEWARK: unknown
footprint DIL08
pins: 1 OUT1 (out), 2 HYST1, 3 SET1, 4 GND (power), 5 HYST2, 6 SET2, 7 OUT2 (out), 8 V+ (power)

## ICL7665CSA
designator IC?, comment UNDER/OVER VOLTAGE DETECTOR
MPN: ICL7665CSA+; OC_FARNELL: unknown; OC_NEWARK: 19M9537
footprint SO08
pins: 1 OUT1 (out), 2 HYST1, 3 SET1, 4 GND (power), 5 HYST2, 6 SET2, 7 OUT2 (out), 8 V+ (power)

## ICM7211M
designator IC?, comment LCD DRIVER
MPN: ICM7211MIPL; MF: MAXIM; OC_FARNELL: unknown; OC_NEWARK: 77C6733
footprint DIL40
pins: 1 V+ (power), 2 E1 (out), 3 G1 (out), 4 F1 (out), 5 BP, 6 A2 (out), 7 B2 (out), 8 C2 (out), 9 D2 (out), 10 E2 (out), 11 G2 (out), 12 F2 (out), 13 A3 (out), 14 B3 (out), 15 C3 (out), 16 D3 (out), 17 E3 (out), 18 G3 (out), 19 F3 (out), 20 A4 (out), 21 B4 (out), 22 C4 (out), 23 D4 (out), 24 E4 (out), 25 G4 (out), 26 F4 (out), 27 B0-IN, 28 B1-IN, 29 B2-IN, 30 B3-IN, 31 DIGSEL1, 32 DIGSEL2, 33 CS1, 34 CS2, 35 GND (power), 36 OSC, 37 A1 (out), 38 B1 (out), 39 C1 (out), 40 D1 (out)

## ICM7211PL
designator IC?, comment LCD DRIVER
OC_FARNELL: unknown; OC_NEWARK: unknown
footprint DIL40
pins: 1 V+ (power), 2 E1 (out), 3 G1 (out), 4 F1 (out), 5 BP, 6 A2 (out), 7 B2 (out), 8 C2 (out), 9 D2 (out), 10 E2 (out), 11 G2 (out), 12 F2 (out), 13 A3 (out), 14 B3 (out), 15 C3 (out), 16 D3 (out), 17 E3 (out), 18 G3 (out), 19 F3 (out), 20 A4 (out), 21 B4 (out), 22 C4 (out), 23 D4 (out), 24 E4 (out), 25 G4 (out), 26 F4 (out), 27 B0-IN, 28 B1-IN, 29 B2-IN, 30 B3-IN, 31 D1-IN, 32 D2-IN, 33 D3-IN, 34 D4-IN, 35 GND (power), 36 OSC, 37 A1 (out), 38 B1 (out), 39 C1 (out), 40 D1 (out)

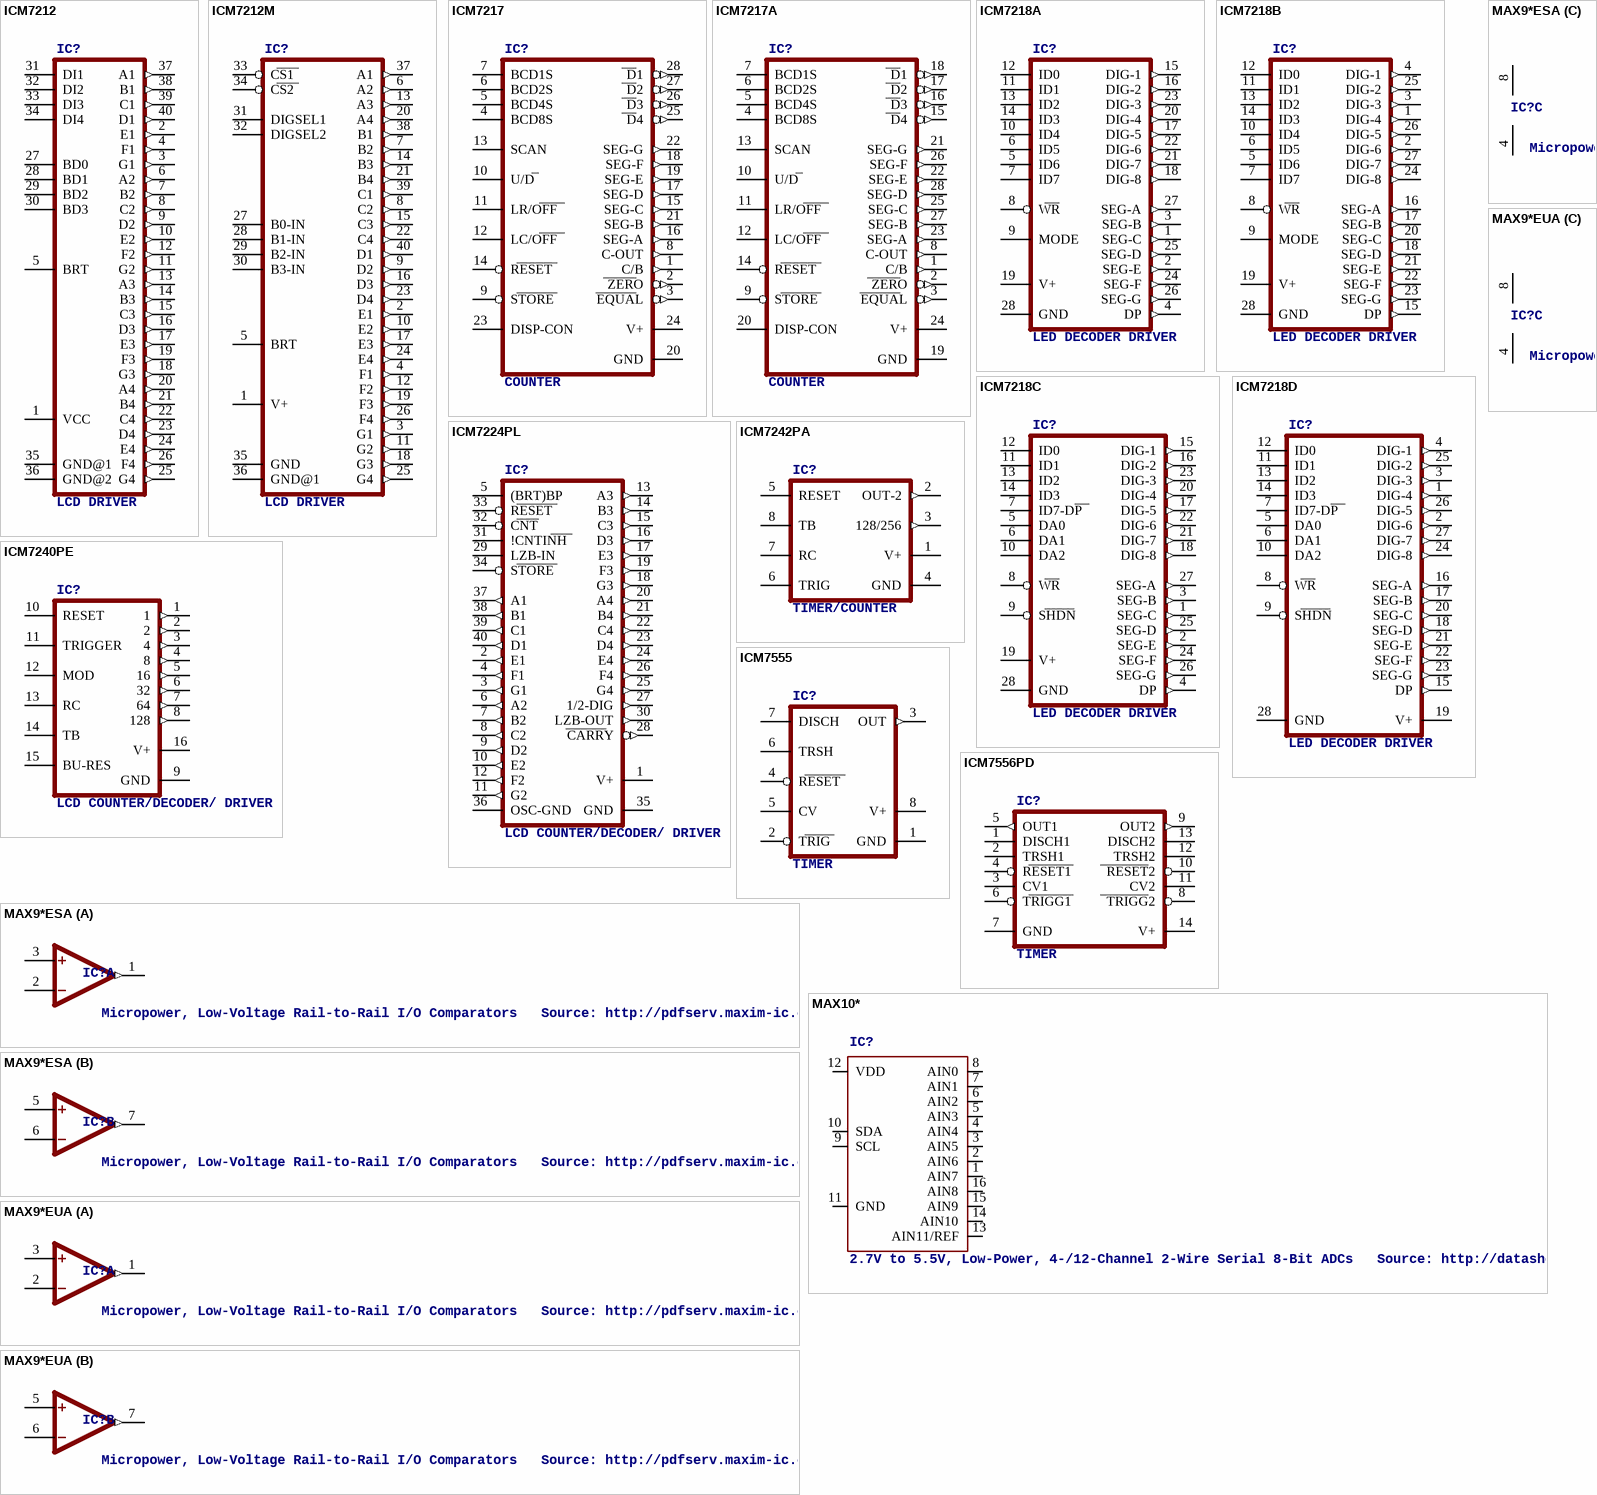
[diagram p5: symbols ICM7212 to MAX10*]

## ICM7212
designator IC?, comment LCD DRIVER
MPN: ICM7212AIPL+; OC_FARNELL: unknown; OC_NEWARK: 42M5306
footprint DIL40
pins: 1 VCC (power), 2 E1 (out), 3 G1 (out), 4 F1 (out), 5 BRT, 6 A2 (out), 7 B2 (out), 8 C2 (out), 9 D2 (out), 10 E2 (out), 11 G2 (out), 12 F2 (out), 13 A3 (out), 14 B3 (out), 15 C3 (out), 16 D3 (out), 17 E3 (out), 18 G3 (out), 19 F3 (out), 20 A4 (out), 21 B4 (out), 22 C4 (out), 23 D4 (out), 24 E4 (out), 25 G4 (out), 26 F4 (out), 27 BD0, 28 BD1, 29 BD2, 30 BD3, 31 DI1, 32 DI2, 33 DI3, 34 DI4, 35 GND@1 (power), 36 GND@2 (power), 37 A1 (out), 38 B1 (out), 39 C1 (out), 40 D1 (out)

## ICM7212M
designator IC?, comment LCD DRIVER
MPN: ICM7212MIPL+; OC_FARNELL: unknown; OC_NEWARK: 18M7376
footprint DIL40
pins: 1 V+ (power), 2 E1 (out), 3 G1 (out), 4 F1 (out), 5 BRT, 6 A2 (out), 7 B2 (out), 8 C2 (out), 9 D2 (out), 10 E2 (out), 11 G2 (out), 12 F2 (out), 13 A3 (out), 14 B3 (out), 15 C3 (out), 16 D3 (out), 17 E3 (out), 18 G3 (out), 19 F3 (out), 20 A4 (out), 21 B4 (out), 22 C4 (out), 23 D4 (out), 24 E4 (out), 25 G4 (out), 26 F4 (out), 27 B0-IN, 28 B1-IN, 29 B2-IN, 30 B3-IN, 31 DIGSEL1, 32 DIGSEL2, 33 CS1, 34 CS2, 35 GND (power), 36 GND@1 (power), 37 A1 (out), 38 B1 (out), 39 C1 (out), 40 D1 (out)

## ICM7217
designator IC?, comment COUNTER
MPN: ICM7217AIPI+; MF: MAXIM; OC_FARNELL: unknown; OC_NEWARK: 65K5764
footprint DIL28-6
pins: 1 C/B (out), 2 ZERO (out), 3 EQUAL (out), 4 BCD8S, 5 BCD4S, 6 BCD2S, 7 BCD1S, 8 C-OUT (out), 9 STORE, 10 U/D, 11 LR/OFF, 12 LC/OFF, 13 SCAN, 14 RESET, 15 SEG-C (out), 16 SEG-A (out), 17 SEG-D (out), 18 SEG-F (out), 19 SEG-E (out), 20 GND (power), 21 SEG-B (out), 22 SEG-G (out), 23 DISP-CON, 24 V+ (power), 25 D4 (out), 26 D3 (out), 27 D2 (out), 28 D1 (out)

## ICM7217A
designator IC?, comment COUNTER
MPN: ICM7217AIPI+; MF: MAXIM; OC_FARNELL: unknown; OC_NEWARK: 65K5764
footprint DIL28-6
pins: 1 C/B (out), 2 ZERO (out), 3 EQUAL (out), 4 BCD8S, 5 BCD4S, 6 BCD2S, 7 BCD1S, 8 C-OUT (out), 9 STORE, 10 U/D, 11 LR/OFF, 12 LC/OFF, 13 SCAN, 14 RESET, 15 D4 (out), 16 D3 (out), 17 D2 (out), 18 D1 (out), 19 GND (power), 20 DISP-CON, 21 SEG-G (out), 22 SEG-E (out), 23 SEG-A (out), 24 V+ (power), 25 SEG-C (out), 26 SEG-F (out), 27 SEG-B (out), 28 SEG-D (out)

## ICM7218A
designator IC?, comment LED DECODER DRIVER
MPN: ICM7218AIJI; MF: INTERSIL; OC_FARNELL: 405991; OC_NEWARK: 06F7544
footprint DIL28-6
pins: 1 SEG-C (out), 2 SEG-E (out), 3 SEG-B (out), 4 DP (out), 5 ID6, 6 ID5, 7 ID7, 8 WR, 9 MODE, 10 ID4, 11 ID1, 12 ID0, 13 ID2, 14 ID3, 15 DIG-1 (out), 16 DIG-2 (out), 17 DIG-5 (out), 18 DIG-8 (out), 19 V+ (power), 20 DIG-4 (out), 21 DIG-7 (out), 22 DIG-6 (out), 23 DIG-3 (out), 24 SEG-F (out), 25 SEG-D (out), 26 SEG-G (out), 27 SEG-A (out), 28 GND (power)

## ICM7218B
designator IC?, comment LED DECODER DRIVER
MPN: ICM7218BIJI; MF: INTERSIL; OC_FARNELL: 406004; OC_NEWARK: 06F7545
footprint DIL28-6
pins: 1 DIG-4 (out), 2 DIG-6 (out), 3 DIG-3 (out), 4 DIG-1 (out), 5 ID6, 6 ID5, 7 ID7, 8 WR, 9 MODE, 10 ID4, 11 ID1, 12 ID0, 13 ID2, 14 ID3, 15 DP (out), 16 SEG-A (out), 17 SEG-B (out), 18 SEG-D (out), 19 V+ (power), 20 SEG-C (out), 21 SEG-E (out), 22 SEG-F (out), 23 SEG-G (out), 24 DIG-8 (out), 25 DIG-2 (out), 26 DIG-5 (out), 27 DIG-7 (out), 28 GND (power)

## ICM7218C
designator IC?, comment LED DECODER DRIVER
MPN: ICM7218CIPI+; OC_FARNELL: 406016; OC_NEWARK: 89K2403
footprint DIL28-6
pins: 1 SEG-C (out), 2 SEG-E (out), 3 SEG-B (out), 4 DP (out), 5 DA0, 6 DA1, 7 ID7-DP, 8 WR, 9 SHDN, 10 DA2, 11 ID1, 12 ID0, 13 ID2, 14 ID3, 15 DIG-1 (out), 16 DIG-2 (out), 17 DIG-5 (out), 18 DIG-8 (out), 19 V+ (power), 20 DIG-4 (out), 21 DIG-7 (out), 22 DIG-6 (out), 23 DIG-3 (out), 24 SEG-F (out), 25 SEG-D (out), 26 SEG-G (out), 27 SEG-A (out), 28 GND (power)

## ICM7218D
designator IC?, comment LED DECODER DRIVER
MPN: ICM7218DIJI; MF: INTERSIL; OC_FARNELL: 406028; OC_NEWARK: 06F7547
footprint DIL28-6
pins: 1 DIG-4 (out), 2 DIG-6 (out), 3 DIG-3 (out), 4 DIG-1 (out), 5 DA0, 6 DA1, 7 ID7-DP, 8 WR, 9 SHDN, 10 DA2, 11 ID1, 12 ID0, 13 ID2, 14 ID3, 15 DP (out), 16 SEG-A (out), 17 SEG-B (out), 18 SEG-D (out), 19 V+ (power), 20 SEG-C (out), 21 SEG-E (out), 22 SEG-F (out), 23 SEG-G (out), 24 DIG-8 (out), 25 DIG-2 (out), 26 DIG-5 (out), 27 DIG-7 (out), 28 GND (power)

## ICM7224PL
designator IC?, comment LCD COUNTER/DECODER/ DRIVER
OC_FARNELL: unknown; OC_NEWARK: unknown
footprint DIL40
pins: 1 V+ (power), 2 E1 (out), 3 G1 (out), 4 F1 (out), 5 (BRT)BP, 6 A2 (out), 7 B2 (out), 8 C2 (out), 9 D2 (out), 10 E2 (out), 11 G2 (out), 12 F2 (out), 13 A3 (out), 14 B3 (out), 15 C3 (out), 16 D3 (out), 17 E3 (out), 18 G3 (out), 19 F3 (out), 20 A4 (out), 21 B4 (out), 22 C4 (out), 23 D4 (out), 24 E4 (out), 25 G4 (out), 26 F4 (out), 27 1/2-DIG (out), 28 CARRY (out), 29 LZB-IN, 30 LZB-OUT (out), 31 !CNTINH, 32 CNT, 33 RESET, 34 STORE, 35 GND (power), 36 OSC-GND (power), 37 A1 (out), 38 B1 (out), 39 C1 (out), 40 D1 (out)

## ICM7240PE
designator IC?, comment LCD COUNTER/DECODER/ DRIVER
OC_FARNELL: unknown; OC_NEWARK: unknown
footprint DIL16
pins: 1 (out), 2 (out), 3 4 (out), 4 8 (out), 5 16 (out), 6 32 (out), 7 64 (out), 8 128 (out), 9 GND (power), 10 RESET, 11 TRIGGER, 12 MOD, 13 RC, 14 TB, 15 BU-RES, 16 V+ (power)

## ICM7242PA
designator IC?, comment TIMER/COUNTER
OC_FARNELL: unknown; OC_NEWARK: unknown
footprint DIL08
pins: 1 V+ (power), 2 OUT-2 (out), 3 128/256 (out), 4 GND (power), 5 RESET, 6 TRIG, 7 RC, 8 TB

## ICM7555
designator IC?, comment TIMER
MPN: ICM7555IPA+; MF: MAXIM; OC_FARNELL: 9663762; OC_NEWARK: 68K4387
footprint DIL08
pins: 1 GND (power), 2 TRIG, 3 OUT (out), 4 RESET, 5 CV, 6 TRSH, 7 DISCH, 8 V+ (power)

## ICM7556PD
designator IC?, comment TIMER
OC_FARNELL: unknown; OC_NEWARK: unknown
footprint DIL14
pins: 1 DISCH1, 2 TRSH1, 3 CV1, 4 RESET1, 5 OUT1 (out), 6 TRIGG1, 7 GND (power), 8 TRIGG2, 9 OUT2 (out), 10 RESET2, 11 CV2, 12 TRSH2, 13 DISCH2, 14 V+ (power)

## MAX9*ESA
designator IC?, comment Micropower, Low-Voltage Rail-to-Rail I/O Comparators   Source: http://pdfserv.maxim-ic.com/en/ds/MAX985-MAX994.pdf
MPN: MAX989ESA+; MPN: MAX990ESA+; MF: MAXIM; OC_FARNELL: 1550496; OC_NEWARK: 23K6628; OC_FARNELL: unknown; OC_NEWARK: 67K7121
footprint SO08
part A pins: 1 OUT (out), 2 -IN, 3 +IN
part B pins: 5 +IN, 6 -IN, 7 OUT (out)
part C pins: 4 V- (power), 8 V+ (power)

## MAX9*EUA
designator IC?, comment Micropower, Low-Voltage Rail-to-Rail I/O Comparators   Source: http://pdfserv.maxim-ic.com/en/ds/MAX985-MAX994.pdf
MPN: MAX989EUA; MPN: MAX990EUA; MF: MAXIM; OC_FARNELL: unknown; OC_NEWARK: 79C3413; OC_NEWARK: 91C3090
footprint UMAX8
part A pins: 1 OUT (out), 2 -IN, 3 +IN
part B pins: 5 +IN, 6 -IN, 7 OUT (out)
part C pins: 4 V- (power), 8 V+ (power)

## MAX10*
designator IC?, comment 2.7V to 5.5V, Low-Power, 4-/12-Channel 2-Wire Serial 8-Bit ADCs   Source: http://datasheets.maxim-ic.com/en/ds/MAX1036-MAX1039M.pdf
MPN: MAX1038AEEE+; MPN: MAX1039AEEE+; MF: MAXIM; OC_FARNELL: 1422279; OC_NEWARK: 23K5589; OC_FARNELL: 1379845; OC_NEWARK: 23K5590
footprint QSOP16
pins: 1 AIN7, 2 AIN6, 3 AIN5, 4 AIN4, 5 AIN3, 6 AIN2, 7 AIN1, 8 AIN0, 9 SCL, 10 SDA, 11 GND (power), 12 VDD (power), 13 AIN11/REF, 14 AIN10, 15 AIN9, 16 AIN8

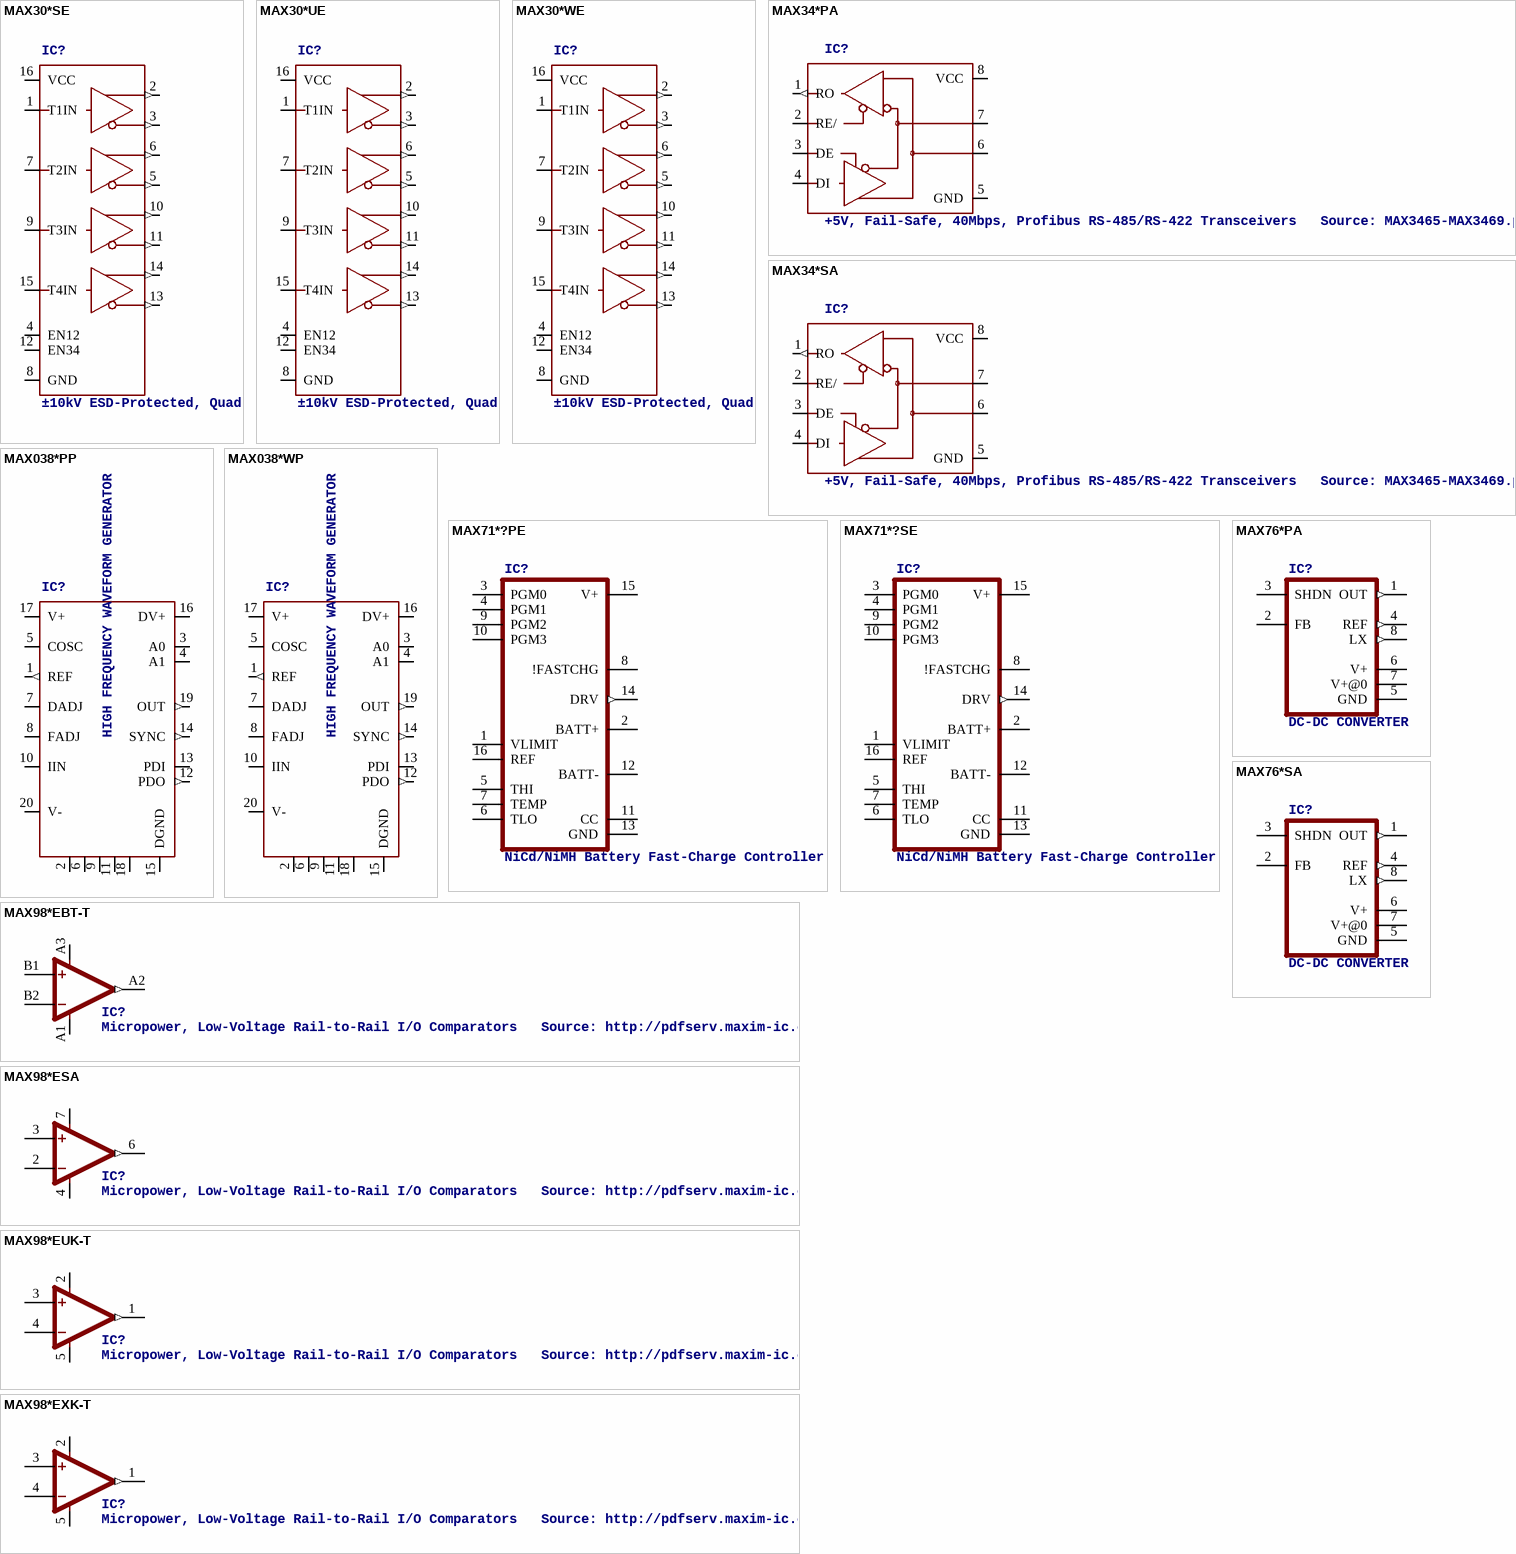
[diagram p6: symbols MAX30*SE to MAX98*EXK-T]

## MAX30*SE
designator IC?, comment ±10kV ESD-Protected, Quad 5V RS-485/RS-422 Transmitters   Source: www.maxim-ic.com .. MAX3040-MAX3045.pdf
MPN: MAX3040CSE+; MPN: MAX3040ESE+; MPN: MAX3041CSE+; MPN: MAX3041ESE+; MPN: MAX3042BCSE; MPN: MAX3042BESE+; MF: MAXIM; OC_FARNELL: unknown; OC_NEWARK: 53K6603; OC_NEWARK: 53K6605; OC_NEWARK: 61K0324; OC_NEWARK: 61K0326; OC_NEWARK: 77C8904; OC_NEWARK: 33K2044
footprint SO16
pins: 1 T1IN, 2 Y1 (out), 3 Z1 (out), 4 EN12, 5 Z2 (out), 6 Y2 (out), 7 T2IN, 8 GND (power), 9 T3IN, 10 Y3 (out), 11 Z3 (out), 12 EN34, 13 Z4 (out), 14 Y4 (out), 15 T4IN, 16 VCC (power)

## MAX30*UE
designator IC?, comment ±10kV ESD-Protected, Quad 5V RS-485/RS-422 Transmitters   Source: www.maxim-ic.com .. MAX3040-MAX3045.pdf
MPN: MAX3040CUE+; MPN: MAX3040EUE+; MPN: MAX3041CUE+; MPN: MAX3041EUE+; MPN: MAX3042BCUE; MPN: MAX3042BEUE+; MF: MAXIM; OC_FARNELL: unknown; OC_NEWARK: 61K0320; OC_NEWARK: 61K0322; OC_NEWARK: 73K8525; OC_NEWARK: 73K8527; OC_NEWARK: 77C8906; OC_NEWARK: 57K8796
footprint TSSOP16
pins: 1 T1IN, 2 Y1 (out), 3 Z1 (out), 4 EN12, 5 Z2 (out), 6 Y2 (out), 7 T2IN, 8 GND (power), 9 T3IN, 10 Y3 (out), 11 Z3 (out), 12 EN34, 13 Z4 (out), 14 Y4 (out), 15 T4IN, 16 VCC (power)

## MAX30*WE
designator IC?, comment ±10kV ESD-Protected, Quad 5V RS-485/RS-422 Transmitters   Source: www.maxim-ic.com .. MAX3040-MAX3045.pdf
MPN: MAX3040CWE+; MPN: MAX3040EWE+; MPN: MAX3041EWE+; OC_FARNELL: unknown; OC_NEWARK: 68K4574; OC_NEWARK: 68K4576; OC_NEWARK: unknown; OC_NEWARK: 13M2181
footprint SO16L
pins: 1 T1IN, 2 Y1 (out), 3 Z1 (out), 4 EN12, 5 Z2 (out), 6 Y2 (out), 7 T2IN, 8 GND (power), 9 T3IN, 10 Y3 (out), 11 Z3 (out), 12 EN34, 13 Z4 (out), 14 Y4 (out), 15 T4IN, 16 VCC (power)

## MAX34*PA
designator IC?, comment +5V, Fail-Safe, 40Mbps, Profibus RS-485/RS-422 Transceivers   Source: MAX3465-MAX3469.pdf
MPN: MAX3468EPA+; OC_FARNELL: unknown; OC_NEWARK: unknown; OC_NEWARK: 78M5804
footprint DIL08
pins: 1 RO (out), 2 RE/, 3 DE, 4 DI, 5 GND (power), 6 A, 7 B, 8 VCC (power)

## MAX34*SA
designator IC?, comment +5V, Fail-Safe, 40Mbps, Profibus RS-485/RS-422 Transceivers   Source: MAX3465-MAX3469.pdf
MPN: MAX3468CSA+; MPN: MAX3468ESA+T; MPN: MAX3469CSA+; MPN: MAX3469ESA+; OC_FARNELL: unknown; OC_NEWARK: 76K6721; OC_NEWARK: 76K6724; OC_NEWARK: 05M8548; OC_NEWARK: 67K5012
footprint SO08
pins: 1 RO (out), 2 RE/, 3 DE, 4 DI, 5 GND (power), 6 A, 7 B, 8 VCC (power)

## MAX038*PP
designator IC?, comment HIGH FREQUENCY WAVEFORM GENERATOR
OC_FARNELL: unknown; OC_NEWARK: unknown
footprint DIL20
pins: 1 REF (out), 2 GND (power), 3 A0, 4 A1, 5 COSC, 6 GND@1 (power), 7 DADJ, 8 FADJ, 9 GND@2 (power), 10 IIN, 11 GND@3 (power), 12 PDO (out), 13 PDI, 14 SYNC (out), 15 DGND (power), 16 DV+ (power), 17 V+ (power), 18 GND@4 (power), 19 OUT (out), 20 V- (power)

## MAX038*WP
designator IC?, comment HIGH FREQUENCY WAVEFORM GENERATOR
OC_FARNELL: unknown; OC_NEWARK: unknown
footprint SO20L
pins: 1 REF (out), 2 GND (power), 3 A0, 4 A1, 5 COSC, 6 GND@1 (power), 7 DADJ, 8 FADJ, 9 GND@2 (power), 10 IIN, 11 GND@3 (power), 12 PDO (out), 13 PDI, 14 SYNC (out), 15 DGND (power), 16 DV+ (power), 17 V+ (power), 18 GND@4 (power), 19 OUT (out), 20 V- (power)

## MAX71*?PE
designator IC?, comment NiCd/NiMH Battery Fast-Charge Controller
MPN: MAX712CPE+; MPN: MAX712EPE+; MPN: MAX713CPE+; MPN: MAX713EPE+; MF: MAXIM; OC_FARNELL: 1187977; OC_NEWARK: 89K6069; OC_FARNELL: unknown; OC_NEWARK: 89K6070; OC_FARNELL: 1187938; OC_NEWARK: 89K6074; OC_NEWARK: 89K6075
footprint DIL16
pins: 1 VLIMIT, 2 BATT+, 3 PGM0, 4 PGM1, 5 THI, 6 TLO, 7 TEMP, 8 !FASTCHG (oc), 9 PGM2, 10 PGM3, 11 CC, 12 BATT-, 13 GND (power), 14 DRV (out), 15 V+ (power), 16 REF

## MAX71*?SE
designator IC?, comment NiCd/NiMH Battery Fast-Charge Controller
MPN: MAX712CSE+; MPN: MAX712ESE+; MPN: MAX713CSE+; MPN: MAX713ESE+; MF: MAXIM; OC_FARNELL: unknown; OC_NEWARK: 49H9633; OC_NEWARK: 43K3866; OC_FARNELL: 9726403; OC_NEWARK: 28K3561; OC_NEWARK: 53K7264
footprint SO16
pins: 1 VLIMIT, 2 BATT+, 3 PGM0, 4 PGM1, 5 THI, 6 TLO, 7 TEMP, 8 !FASTCHG (oc), 9 PGM2, 10 PGM3, 11 CC, 12 BATT-, 13 GND (power), 14 DRV (out), 15 V+ (power), 16 REF

## MAX76*PA
designator IC?, comment DC-DC CONVERTER
MPN: MAX764CPA+; MPN: MAX764EPA+; MPN: MAX765CPA+; MPN: MAX765EPA+; MPN: MAX766CPA+; MPN: MAX766EPA+; OC_FARNELL: 1422353; OC_NEWARK: 89K6221; OC_FARNELL: unknown; OC_NEWARK: 61K0675; OC_FARNELL: 1256394; OC_NEWARK: 06M0058; OC_NEWARK: 28M3073; OC_NEWARK: 89K6227; OC_NEWARK: 06M0059
footprint DIL08
pins: 1 OUT (out), 2 FB, 3 SHDN, 4 REF (out), 5 GND (power), 6 V+ (power), 7 V+@0 (power), 8 LX (out)

## MAX76*SA
designator IC?, comment DC-DC CONVERTER
MPN: MAX764CSA+; MPN: MAX764ESA+; MPN: MAX765CSA+; MPN: MAX765ESA+; MPN: MAX766CSA+; MPN: MAX766ESA+; MF: MAXIM; OC_FARNELL: 9725032; OC_NEWARK: 23K6509; OC_FARNELL: 1422354; OC_NEWARK: 59J6527; OC_FARNELL: 9725059; OC_NEWARK: 33K2255; OC_FARNELL: 1673223; OC_NEWARK: 33K2256; OC_FARNELL: 1673224; OC_NEWARK: 59J6529; OC_FARNELL: 1422355; OC_NEWARK: 59J6531
footprint SO08
pins: 1 OUT (out), 2 FB, 3 SHDN, 4 REF (out), 5 GND (power), 6 V+ (power), 7 V+@0 (power), 8 LX (out)

## MAX98*EBT-T
designator IC?, comment Micropower, Low-Voltage Rail-to-Rail I/O Comparators   Source: http://pdfserv.maxim-ic.com/en/ds/MAX985-MAX994.pdf
OC_FARNELL: unknown; OC_NEWARK: unknown
footprint UCSP6
pins: A1 V- (power), A2 OUT (out), A3 V+ (power), B1 +IN, B2 -IN

## MAX98*ESA
designator IC?, comment Micropower, Low-Voltage Rail-to-Rail I/O Comparators   Source: http://pdfserv.maxim-ic.com/en/ds/MAX985-MAX994.pdf
MPN: MAX985ESA+; MPN: MAX986ESA+; OC_FARNELL: 1550491; OC_NEWARK: 67K7102; OC_FARNELL: unknown; OC_NEWARK: 67K7105
footprint SO08
pins: 2 -IN, 3 +IN, 4 V- (power), 6 OUT (out), 7 V+ (power)

## MAX98*EUK-T
designator IC?, comment Micropower, Low-Voltage Rail-to-Rail I/O Comparators   Source: http://pdfserv.maxim-ic.com/en/ds/MAX985-MAX994.pdf
MPN: MAX985EUK-T; MF: MAXIM; OC_FARNELL: unknown; OC_NEWARK: 79C3408
footprint SOT23-5L
pins: 1 OUT (out), 2 V+ (power), 3 +IN, 4 -IN, 5 V- (power)

## MAX98*EXK-T
designator IC?, comment Micropower, Low-Voltage Rail-to-Rail I/O Comparators   Source: http://pdfserv.maxim-ic.com/en/ds/MAX985-MAX994.pdf
MPN: MAX986EXK+T; OC_FARNELL: unknown; OC_NEWARK: 67K7108
footprint SC70-5L
pins: 1 OUT (out), 2 V+ (power), 3 +IN, 4 -IN, 5 V- (power)

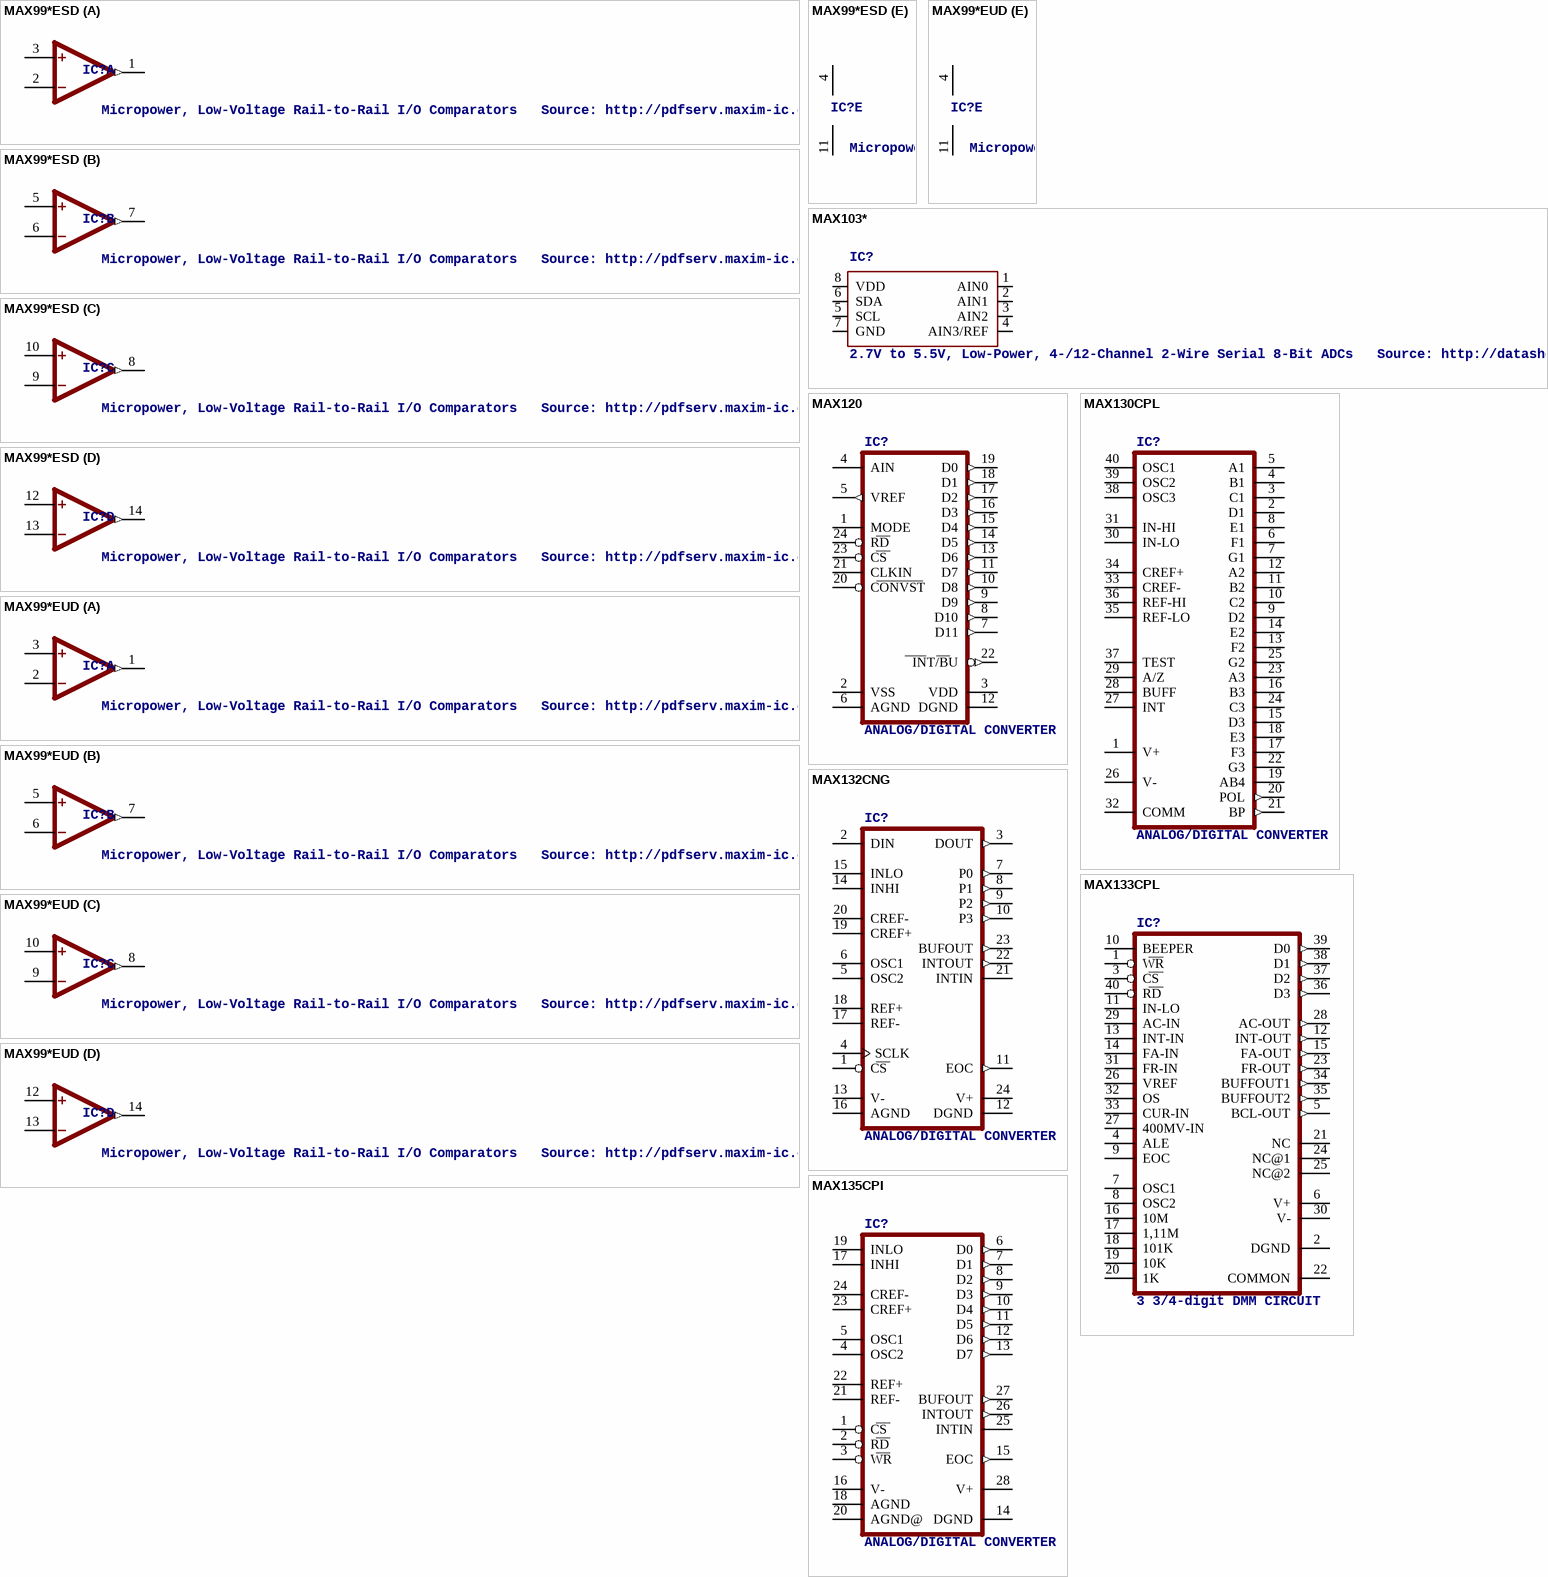
[diagram p7: symbols MAX99*ESD to MAX135CPI]

## MAX99*ESD
designator IC?, comment Micropower, Low-Voltage Rail-to-Rail I/O Comparators   Source: http://pdfserv.maxim-ic.com/en/ds/MAX985-MAX994.pdf
OC_FARNELL: unknown; OC_NEWARK: unknown
footprint SO14
part A pins: 1 OUT (out), 2 -IN, 3 +IN
part B pins: 5 +IN, 6 -IN, 7 OUT (out)
part C pins: 8 OUT (out), 9 -IN, 10 +IN
part D pins: 12 +IN, 13 -IN, 14 OUT (out)
part E pins: 4 V+ (power), 11 V- (power)

## MAX99*EUD
designator IC?, comment Micropower, Low-Voltage Rail-to-Rail I/O Comparators   Source: http://pdfserv.maxim-ic.com/en/ds/MAX985-MAX994.pdf
OC_FARNELL: unknown; OC_NEWARK: unknown
footprint TSSOP14
part A pins: 1 OUT (out), 2 -IN, 3 +IN
part B pins: 5 +IN, 6 -IN, 7 OUT (out)
part C pins: 8 OUT (out), 9 -IN, 10 +IN
part D pins: 12 +IN, 13 -IN, 14 OUT (out)
part E pins: 4 V+ (power), 11 V- (power)

## MAX103*
designator IC?, comment 2.7V to 5.5V, Low-Power, 4-/12-Channel 2-Wire Serial 8-Bit ADCs   Source: http://datasheets.maxim-ic.com/en/ds/MAX1036-MAX1039M.pdf
MPN: MAX1036EKA+T; MPN: MAX1037EKA+T; MF: MAXIM; OC_FARNELL: 1714868; OC_NEWARK: 67K3900; OC_FARNELL: unknown; OC_NEWARK: 68K9410
footprint SOT23-8L
pins: 1 AIN0, 2 AIN1, 3 AIN2, 4 AIN3/REF, 5 SCL, 6 SDA, 7 GND (power), 8 VDD (power)

## MAX120
designator IC?, comment ANALOG/DIGITAL CONVERTER
MPN: MAX120CNG+; OC_FARNELL: unknown; OC_NEWARK: 65K6573
footprint DIL24-3
pins: 1 MODE, 2 VSS (power), 3 VDD (power), 4 AIN, 5 VREF (out), 6 AGND (power), 7 D11 (out), 8 D10 (out), 9 D9 (out), 10 D8 (out), 11 D7 (out), 12 DGND (power), 13 D6 (out), 14 D5 (out), 15 D4 (out), 16 D3 (out), 17 D2 (out), 18 D1 (out), 19 D0 (out), 20 CONVST, 21 CLKIN, 22 INT/BU (out), 23 CS, 24 RD

## MAX130CPL
designator IC?, comment ANALOG/DIGITAL CONVERTER
MPN: MAX130CPL+; OC_FARNELL: unknown; OC_NEWARK: 99K2865
footprint DIL40
pins: 1 V+ (power), 2 D1 (hiz), 3 C1 (hiz), 4 B1 (hiz), 5 A1 (hiz), 6 F1 (hiz), 7 G1 (hiz), 8 E1 (hiz), 9 D2 (hiz), 10 C2 (hiz), 11 B2 (hiz), 12 A2 (hiz), 13 F2 (hiz), 14 E2 (hiz), 15 D3 (hiz), 16 B3 (hiz), 17 F3 (hiz), 18 E3 (hiz), 19 AB4 (hiz), 20 POL (out), 21 BP (out), 22 G3 (hiz), 23 A3 (hiz), 24 C3 (hiz), 25 G2 (hiz), 26 V- (power), 27 INT, 28 BUFF, 29 A/Z, 30 IN-LO, 31 IN-HI, 32 COMM (power), 33 CREF-, 34 CREF+, 35 REF-LO, 36 REF-HI, 37 TEST, 38 OSC3, 39 OSC2, 40 OSC1

## MAX132CNG
designator IC?, comment ANALOG/DIGITAL CONVERTER
MPN: MAX132CNG+; OC_FARNELL: 1187950; OC_NEWARK: 67K4009
footprint DIL24-3
pins: 1 CS, 2 DIN, 3 DOUT (out), 4 SCLK, 5 OSC2, 6 OSC1, 7 P0 (out), 8 P1 (out), 9 P2 (out), 10 P3 (out), 11 EOC (out), 12 DGND (power), 13 V- (power), 14 INHI, 15 INLO, 16 AGND (power), 17 REF-, 18 REF+, 19 CREF+, 20 CREF-, 21 INTIN, 22 INTOUT (out), 23 BUFOUT (out), 24 V+ (power)

## MAX133CPL
designator IC?, comment 3 3/4-digit DMM CIRCUIT
MPN: MAX133CPL+; OC_FARNELL: unknown; OC_NEWARK: 99K2893
footprint DIL40
pins: 1 WR, 2 DGND (power), 3 CS, 4 ALE, 5 BCL-OUT (out), 6 V+ (power), 7 OSC1, 8 OSC2, 9 EOC, 10 BEEPER, 11 IN-LO, 12 INT-OUT (out), 13 INT-IN, 14 FA-IN, 15 FA-OUT (out), 16 10M, 17 1,11M, 18 101K, 19 10K, 20 1K, 21 NC, 22 COMMON (power), 23 FR-OUT (out), 24 NC@1, 25 NC@2, 26 VREF, 27 400MV-IN, 28 AC-OUT (out), 29 AC-IN, 30 V- (power), 31 FR-IN, 32 OS, 33 CUR-IN, 34 BUFFOUT1 (out), 35 BUFFOUT2 (out), 36 D3 (out), 37 D2 (out), 38 D1 (out), 39 D0 (out), 40 RD

## MAX135CPI
designator IC?, comment ANALOG/DIGITAL CONVERTER
MPN: MAX135CPI+; OC_FARNELL: unknown; OC_NEWARK: 99K2909
footprint DIL28-6
pins: 1 CS, 2 RD, 3 WR, 4 OSC2, 5 OSC1, 6 D0 (out), 7 D1 (out), 8 D2 (out), 9 D3 (out), 10 D4 (out), 11 D5 (out), 12 D6 (out), 13 D7 (out), 14 DGND (power), 15 EOC (out), 16 V- (power), 17 INHI, 18 AGND (power), 19 INLO, 20 AGND@ (power), 21 REF-, 22 REF+, 23 CREF+, 24 CREF-, 25 INTIN, 26 INTOUT (out), 27 BUFOUT (out), 28 V+ (power)

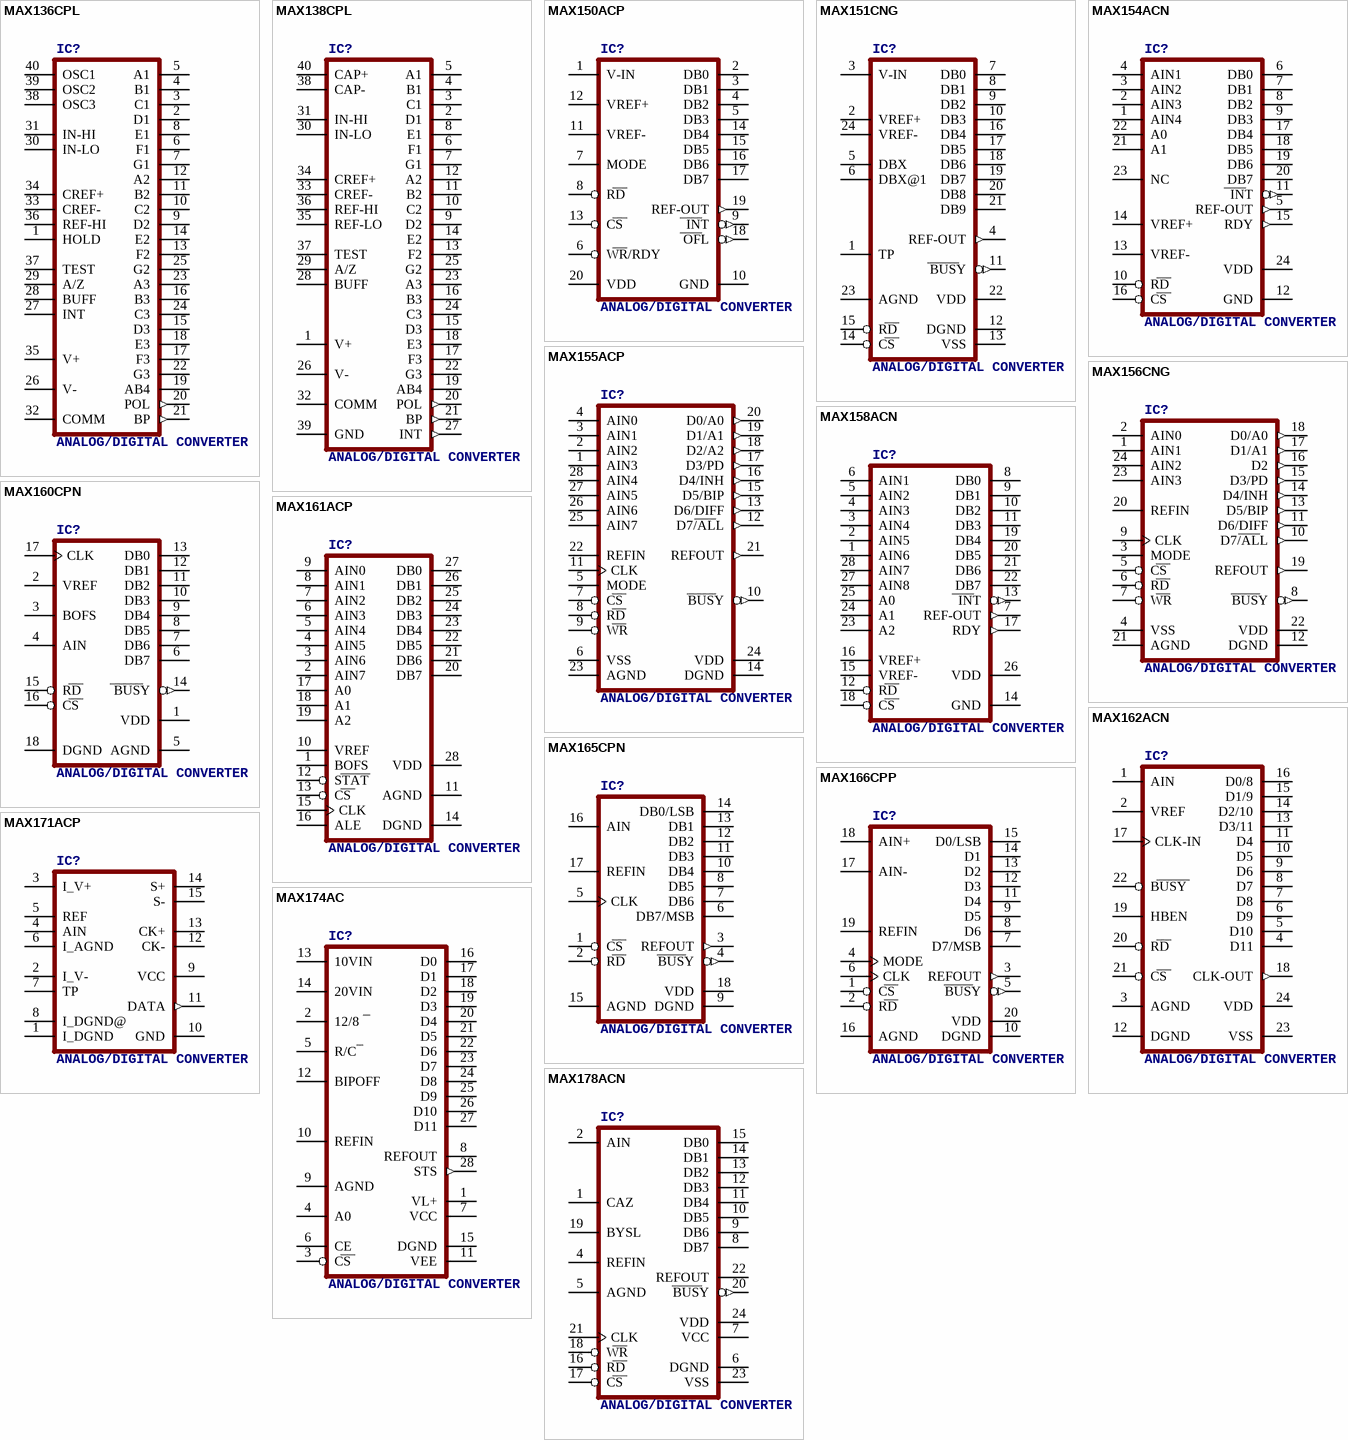
[diagram p8: symbols MAX136CPL to MAX178ACN]

## MAX136CPL
designator IC?, comment ANALOG/DIGITAL CONVERTER
MPN: MAX136CPL+; OC_FARNELL: unknown; OC_NEWARK: 67K4019
footprint DIL40
pins: 1 HOLD, 2 D1 (hiz), 3 C1 (hiz), 4 B1 (hiz), 5 A1 (hiz), 6 F1 (hiz), 7 G1 (hiz), 8 E1 (hiz), 9 D2 (hiz), 10 C2 (hiz), 11 B2 (hiz), 12 A2 (hiz), 13 F2 (hiz), 14 E2 (hiz), 15 D3 (hiz), 16 B3 (hiz), 17 F3 (hiz), 18 E3 (hiz), 19 AB4 (hiz), 20 POL (out), 21 BP (out), 22 G3 (hiz), 23 A3 (hiz), 24 C3 (hiz), 25 G2 (hiz), 26 V- (power), 27 INT, 28 BUFF, 29 A/Z, 30 IN-LO, 31 IN-HI, 32 COMM (power), 33 CREF-, 34 CREF+, 35 V+ (power), 36 REF-HI, 37 TEST, 38 OSC3, 39 OSC2, 40 OSC1

## MAX138CPL
designator IC?, comment ANALOG/DIGITAL CONVERTER
MPN: MAX138CPL+; OC_FARNELL: unknown; OC_NEWARK: 99K2913
footprint DIL40
pins: 1 V+ (power), 2 D1 (hiz), 3 C1 (hiz), 4 B1 (hiz), 5 A1 (hiz), 6 F1 (hiz), 7 G1 (hiz), 8 E1 (hiz), 9 D2 (hiz), 10 C2 (hiz), 11 B2 (hiz), 12 A2 (hiz), 13 F2 (hiz), 14 E2 (hiz), 15 D3 (hiz), 16 B3 (hiz), 17 F3 (hiz), 18 E3 (hiz), 19 AB4 (hiz), 20 POL (out), 21 BP (out), 22 G3 (hiz), 23 A3 (hiz), 24 C3 (hiz), 25 G2 (hiz), 26 V- (power), 27 INT (out), 28 BUFF, 29 A/Z, 30 IN-LO, 31 IN-HI, 32 COMM (power), 33 CREF-, 34 CREF+, 35 REF-LO, 36 REF-HI, 37 TEST, 38 CAP-, 39 GND (power), 40 CAP+

## MAX150ACP
designator IC?, comment ANALOG/DIGITAL CONVERTER
OC_FARNELL: unknown; OC_NEWARK: unknown
footprint DIL20
pins: 1 V-IN, 2 DB0 (hiz), 3 DB1 (hiz), 4 DB2 (hiz), 5 DB3 (hiz), 6 WR/RDY, 7 MODE, 8 RD, 9 INT (out), 10 GND (power), 11 VREF-, 12 VREF+, 13 CS, 14 DB4 (hiz), 15 DB5 (hiz), 16 DB6 (hiz), 17 DB7 (hiz), 18 OFL (out), 19 REF-OUT (out), 20 VDD (power)

## MAX151CNG
designator IC?, comment ANALOG/DIGITAL CONVERTER
OC_FARNELL: unknown; OC_NEWARK: unknown
footprint DIL24-3
pins: 1 TP, 2 VREF+, 3 V-IN, 4 REF-OUT (out), 5 DBX, 6 DBX@1, 7 DB0 (hiz), 8 DB1 (hiz), 9 DB2 (hiz), 10 DB3 (hiz), 11 BUSY (out), 12 DGND (power), 13 VSS (power), 14 CS, 15 RD, 16 DB4 (hiz), 17 DB5 (hiz), 18 DB6 (hiz), 19 DB7 (hiz), 20 DB8 (hiz), 21 DB9 (hiz), 22 VDD (power), 23 AGND (power), 24 VREF-

## MAX154ACN
designator IC?, comment ANALOG/DIGITAL CONVERTER
MPN: MAX154ACNG+; OC_FARNELL: unknown; OC_NEWARK: 67K4138
footprint DIL24-6
pins: 1 AIN4, 2 AIN3, 3 AIN2, 4 AIN1, 5 REF-OUT (out), 6 DB0 (hiz), 7 DB1 (hiz), 8 DB2 (hiz), 9 DB3 (hiz), 10 RD, 11 INT (out), 12 GND (power), 13 VREF-, 14 VREF+, 15 RDY (out), 16 CS, 17 DB4 (hiz), 18 DB5 (hiz), 19 DB6 (hiz), 20 DB7 (hiz), 21 A1, 22 A0, 23 NC, 24 VDD (power)

## MAX155ACP
designator IC?, comment ANALOG/DIGITAL CONVERTER
MPN: MAX155ACPI+; OC_FARNELL: unknown; OC_NEWARK: 58M8459
footprint DIL28-6
pins: 1 AIN3, 2 AIN2, 3 AIN1, 4 AIN0, 5 MODE, 6 VSS (power), 7 CS, 8 RD, 9 WR, 10 BUSY (out), 11 CLK, 12 D7/ALL (out), 13 D6/DIFF (out), 14 DGND (power), 15 D5/BIP (out), 16 D4/INH (out), 17 D3/PD (out), 18 D2/A2 (out), 19 D1/A1 (out), 20 D0/A0 (out), 21 REFOUT (out), 22 REFIN, 23 AGND (power), 24 VDD (power), 25 AIN7, 26 AIN6, 27 AIN5, 28 AIN4

## MAX156CNG
designator IC?, comment ANALOG/DIGITAL CONVERTER
OC_FARNELL: unknown; OC_NEWARK: unknown
footprint DIL24-3
pins: 1 AIN1, 2 AIN0, 3 MODE, 4 VSS (power), 5 CS, 6 RD, 7 WR, 8 BUSY (out), 9 CLK, 10 D7/ALL (out), 11 D6/DIFF (out), 12 DGND (power), 13 D5/BIP (out), 14 D4/INH (out), 15 D3/PD (out), 16 D2 (out), 17 D1/A1 (out), 18 D0/A0 (out), 19 REFOUT (out), 20 REFIN, 21 AGND (power), 22 VDD (power), 23 AIN3, 24 AIN2

## MAX158ACN
designator IC?, comment ANALOG/DIGITAL CONVERTER
OC_FARNELL: unknown; OC_NEWARK: unknown
footprint DIL28-6
pins: 1 AIN6, 2 AIN5, 3 AIN4, 4 AIN3, 5 AIN2, 6 AIN1, 7 REF-OUT (out), 8 DB0 (hiz), 9 DB1 (hiz), 10 DB2 (hiz), 11 DB3 (hiz), 12 RD, 13 INT (out), 14 GND (power), 15 VREF-, 16 VREF+, 17 RDY (out), 18 CS, 19 DB4 (hiz), 20 DB5 (hiz), 21 DB6 (hiz), 22 DB7 (hiz), 23 A2, 24 A1, 25 A0, 26 VDD (power), 27 AIN8, 28 AIN7

## MAX160CPN
designator IC?, comment ANALOG/DIGITAL CONVERTER
MPN: MAX160CPN+; OC_FARNELL: unknown; OC_NEWARK: 99K3001
footprint DIL18
pins: 1 VDD (power), 2 VREF, 3 BOFS, 4 AIN, 5 AGND (power), 6 DB7 (hiz), 7 DB6 (hiz), 8 DB5 (hiz), 9 DB4 (hiz), 10 DB3 (hiz), 11 DB2 (hiz), 12 DB1 (hiz), 13 DB0 (hiz), 14 BUSY (out), 15 RD, 16 CS, 17 CLK, 18 DGND (power)

## MAX161ACP
designator IC?, comment ANALOG/DIGITAL CONVERTER
MPN: MAX161ACPI+; OC_FARNELL: unknown; OC_NEWARK: 99K3007
footprint DIL28-6
pins: 1 BOFS, 2 AIN7, 3 AIN6, 4 AIN5, 5 AIN4, 6 AIN3, 7 AIN2, 8 AIN1, 9 AIN0, 10 VREF, 11 AGND (power), 12 STAT, 13 CS, 14 DGND (power), 15 CLK, 16 ALE, 17 A0, 18 A1, 19 A2, 20 DB7 (hiz), 21 DB6 (hiz), 22 DB5 (hiz), 23 DB4 (hiz), 24 DB3 (hiz), 25 DB2 (hiz), 26 DB1 (hiz), 27 DB0 (hiz), 28 VDD (power)

## MAX162ACN
designator IC?, comment ANALOG/DIGITAL CONVERTER
MPN: MAX162ACNG+; OC_FARNELL: unknown; OC_NEWARK: 89K3211
footprint DIL24-6
pins: 1 AIN, 2 VREF, 3 AGND, 4 D11 (hiz), 5 D10 (hiz), 6 D9 (hiz), 7 D8 (hiz), 8 D7 (hiz), 9 D6 (hiz), 10 D5 (hiz), 11 D4 (hiz), 12 DGND, 13 D3/11 (hiz), 14 D2/10 (hiz), 15 D1/9 (hiz), 16 D0/8 (hiz), 17 CLK-IN, 18 CLK-OUT (out), 19 HBEN, 20 RD, 21 CS, 22 BUSY, 23 VSS (power), 24 VDD (power)

## MAX165CPN
designator IC?, comment ANALOG/DIGITAL CONVERTER
OC_FARNELL: unknown; OC_NEWARK: unknown
footprint DIL18
pins: 1 CS, 2 RD, 3 REFOUT (out), 4 BUSY (out), 5 CLK, 6 DB7/MSB (hiz), 7 DB6 (hiz), 8 DB5 (hiz), 9 DGND (power), 10 DB4 (hiz), 11 DB3 (hiz), 12 DB2 (hiz), 13 DB1 (hiz), 14 DB0/LSB (hiz), 15 AGND (power), 16 AIN, 17 REFIN, 18 VDD (power)

## MAX166CPP
designator IC?, comment ANALOG/DIGITAL CONVERTER
OC_FARNELL: unknown; OC_NEWARK: unknown
footprint DIL20
pins: 1 CS, 2 RD, 3 REFOUT (out), 4 MODE, 5 BUSY (out), 6 CLK, 7 D7/MSB (hiz), 8 D6 (hiz), 9 D5 (hiz), 10 DGND (power), 11 D4 (hiz), 12 D3 (hiz), 13 D2 (hiz), 14 D1 (hiz), 15 D0/LSB (hiz), 16 AGND (power), 17 AIN-, 18 AIN+, 19 REFIN, 20 VDD (power)

## MAX171ACP
designator IC?, comment ANALOG/DIGITAL CONVERTER
OC_FARNELL: unknown; OC_NEWARK: unknown
footprint DIL16
pins: 1 I_DGND, 2 I_V-, 3 I_V+, 4 AIN, 5 REF (oe), 6 I_AGND, 7 TP, 8 I_DGND@, 9 VCC (power), 10 GND (power), 11 DATA (out), 12 CK-, 13 CK+, 14 S+, 15 S-

## MAX174AC
designator IC?, comment ANALOG/DIGITAL CONVERTER
MPN: MAX174ACPI+; OC_FARNELL: unknown; OC_NEWARK: 89K3260
footprint DIL28-6
pins: 1 VL+ (power), 2 12/8, 3 CS, 4 A0, 5 R/C, 6 CE, 7 VCC (power), 8 REFOUT (oe), 9 AGND (power), 10 REFIN, 11 VEE (power), 12 BIPOFF, 13 10VIN, 14 20VIN, 15 DGND (power), 16 D0 (hiz), 17 D1 (hiz), 18 D2 (hiz), 19 D3 (hiz), 20 D4 (hiz), 21 D5 (hiz), 22 D6 (hiz), 23 D7 (hiz), 24 D8 (hiz), 25 D9 (hiz), 26 D10 (hiz), 27 D11 (hiz), 28 STS (out)

## MAX178ACN
designator IC?, comment ANALOG/DIGITAL CONVERTER
MPN: MAX178ACNG+; OC_FARNELL: unknown; OC_NEWARK: 89K3281
footprint DIL24-6
pins: 1 CAZ, 2 AIN, 4 REFIN, 5 AGND (power), 6 DGND (power), 7 VCC (power), 8 DB7 (hiz), 9 DB6 (hiz), 10 DB5 (hiz), 11 DB4 (hiz), 12 DB3 (hiz), 13 DB2 (hiz), 14 DB1 (hiz), 15 DB0 (hiz), 16 RD, 17 CS, 18 WR, 19 BYSL, 20 BUSY (out), 21 CLK, 22 REFOUT (oe), 23 VSS (power), 24 VDD (power)

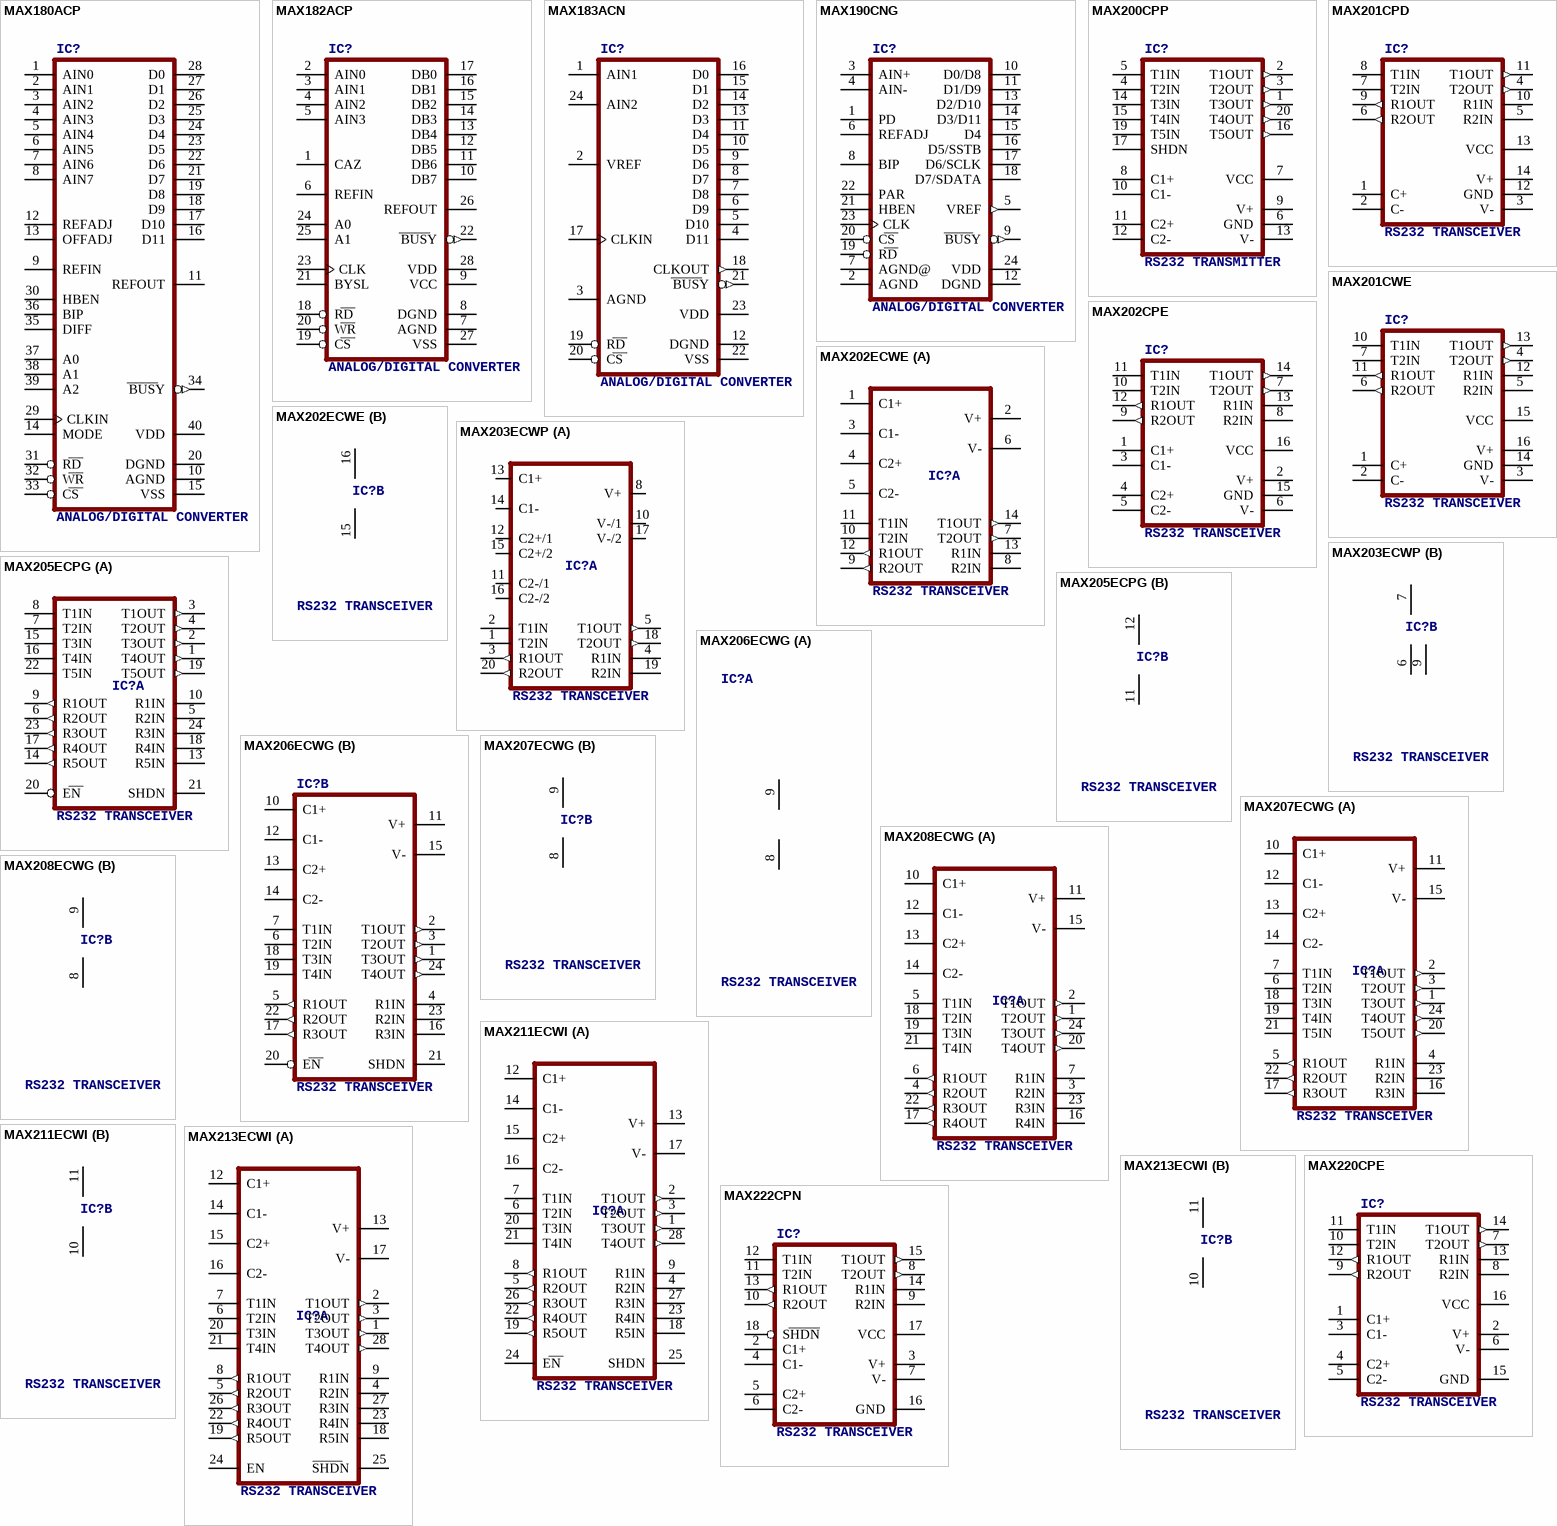
[diagram p9: symbols MAX180ACP to MAX222CPN]

## MAX180ACP
designator IC?, comment ANALOG/DIGITAL CONVERTER
MPN: MAX180ACPL+; OC_FARNELL: unknown; OC_NEWARK: 99K3055
footprint DIL40
pins: 1 AIN0, 2 AIN1, 3 AIN2, 4 AIN3, 5 AIN4, 6 AIN5, 7 AIN6, 8 AIN7, 9 REFIN, 10 AGND (power), 11 REFOUT (oe), 12 REFADJ, 13 OFFADJ, 14 MODE, 15 VSS (power), 16 D11 (hiz), 17 D10 (hiz), 18 D9 (hiz), 19 D8 (hiz), 20 DGND (power), 21 D7 (hiz), 22 D6 (hiz), 23 D5 (hiz), 24 D4 (hiz), 25 D3 (hiz), 26 D2 (hiz), 27 D1 (hiz), 28 D0 (hiz), 29 CLKIN, 30 HBEN, 31 RD, 32 WR, 33 CS, 34 BUSY (out), 35 DIFF, 36 BIP, 37 A0, 38 A1, 39 A2, 40 VDD (power)

## MAX182ACP
designator IC?, comment ANALOG/DIGITAL CONVERTER
MPN: MAX182ACPI+; OC_FARNELL: unknown; OC_NEWARK: 89K3312
footprint DIL28-6
pins: 1 CAZ, 2 AIN0, 3 AIN1, 4 AIN2, 5 AIN3, 6 REFIN, 7 AGND (power), 8 DGND (power), 9 VCC (power), 10 DB7 (hiz), 11 DB6 (hiz), 12 DB5 (hiz), 13 DB4 (hiz), 14 DB3 (hiz), 15 DB2 (hiz), 16 DB1 (hiz), 17 DB0 (hiz), 18 RD, 19 CS, 20 WR, 21 BYSL, 22 BUSY (out), 23 CLK, 24 A0, 25 A1, 26 REFOUT (oe), 27 VSS (power), 28 VDD (power)

## MAX183ACN
designator IC?, comment ANALOG/DIGITAL CONVERTER
OC_FARNELL: unknown; OC_NEWARK: unknown
footprint DIL24-3
pins: 1 AIN1, 2 VREF, 3 AGND (power), 4 D11 (hiz), 5 D10 (hiz), 6 D9 (hiz), 7 D8 (hiz), 8 D7 (hiz), 9 D6 (hiz), 10 D5 (hiz), 11 D4 (hiz), 12 DGND (power), 13 D3 (hiz), 14 D2 (hiz), 15 D1 (hiz), 16 D0 (hiz), 17 CLKIN, 18 CLKOUT (out), 19 RD, 20 CS, 21 BUSY (out), 22 VSS (power), 23 VDD (power), 24 AIN2

## MAX190CNG
designator IC?, comment ANALOG/DIGITAL CONVERTER
OC_FARNELL: unknown; OC_NEWARK: unknown
footprint DIL24-3
pins: 1 PD, 2 AGND (power), 3 AIN+, 4 AIN-, 5 VREF (out), 6 REFADJ, 7 AGND@ (power), 8 BIP, 9 BUSY (out), 10 D0/D8 (hiz), 11 D1/D9 (hiz), 12 DGND (power), 13 D2/D10 (hiz), 14 D3/D11 (hiz), 15 D4 (hiz), 16 D5/SSTB (hiz), 17 D6/SCLK (hiz), 18 D7/SDATA (hiz), 19 RD, 20 CS, 21 HBEN, 22 PAR, 23 CLK, 24 VDD (power)